# Altium integrated library Renesas Microcontroller M16C.IntLib: 423 symbols (part 8 of 30)
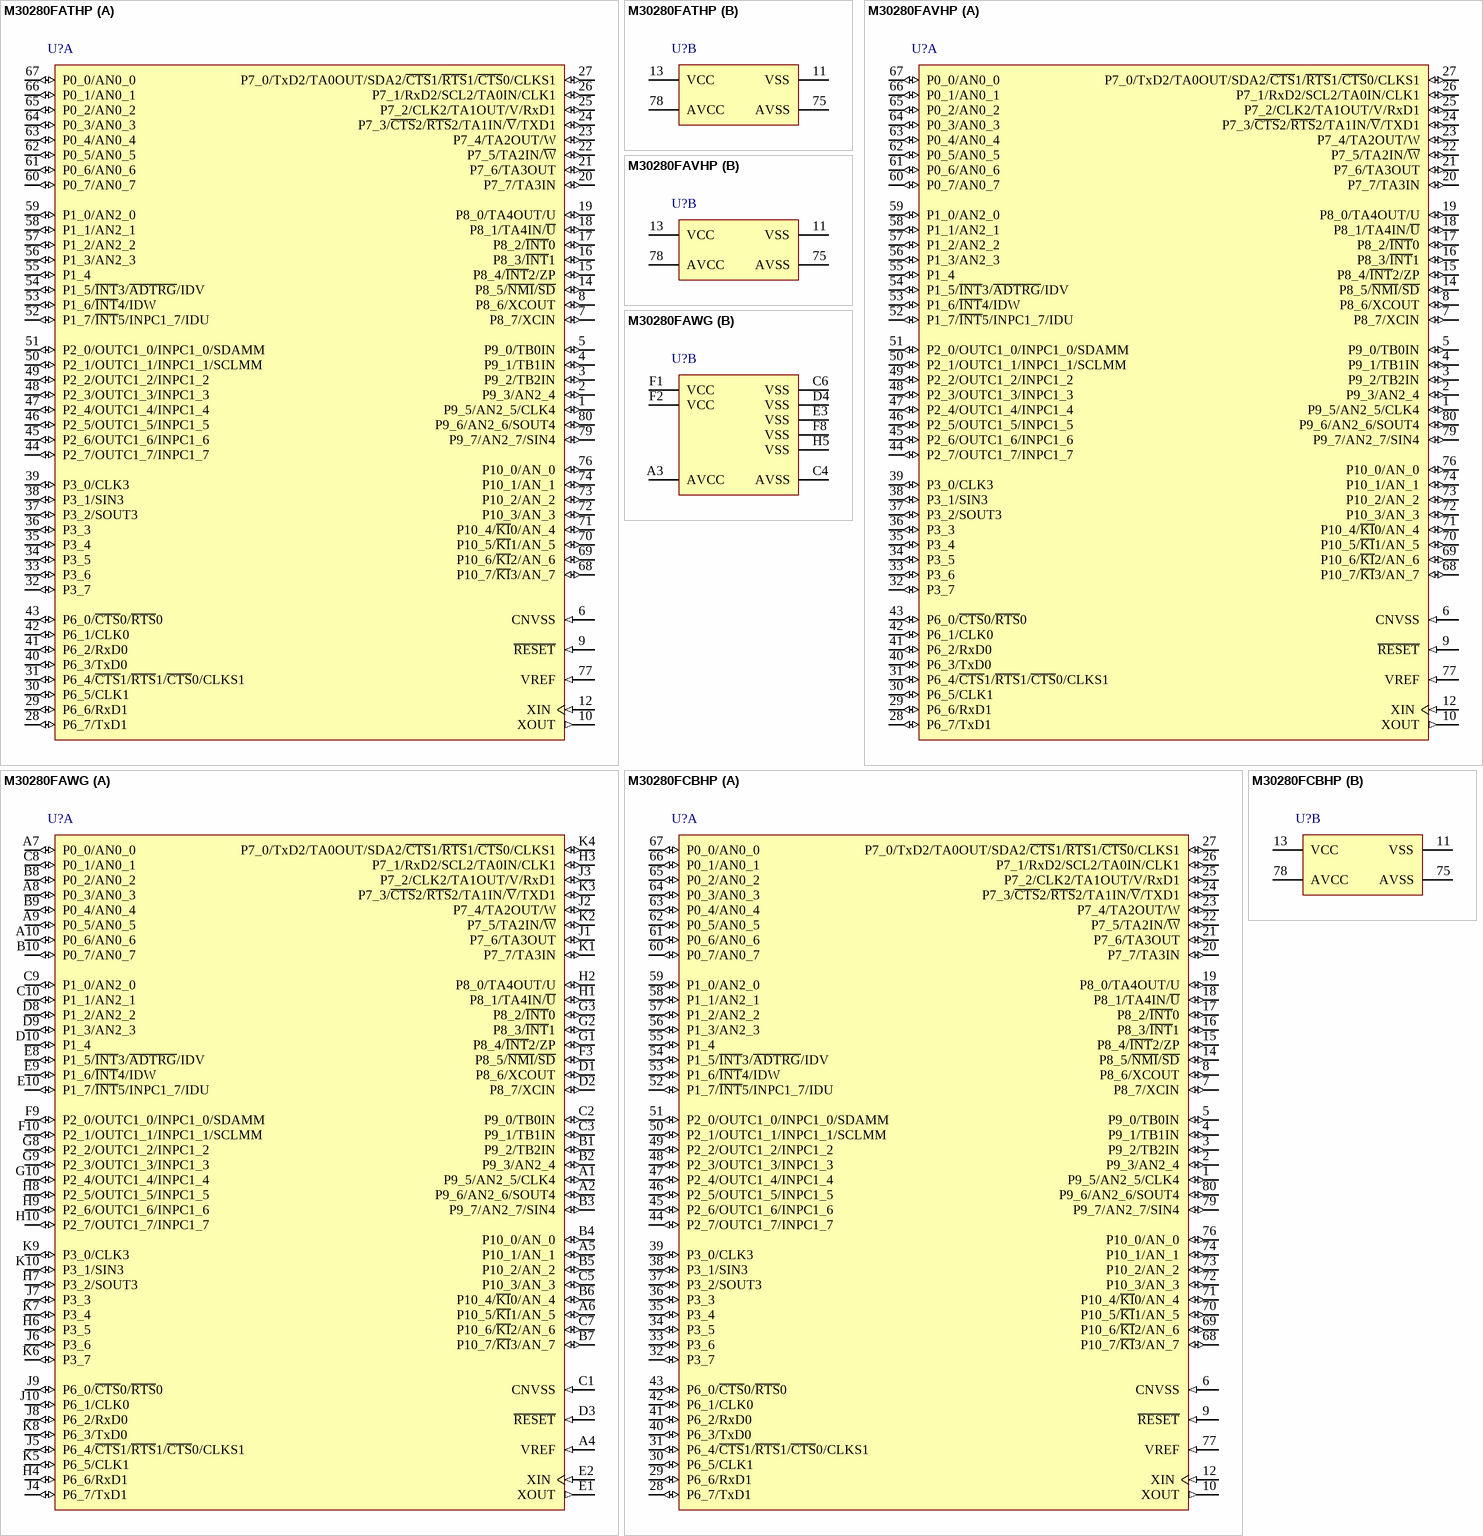
[diagram p193: symbols M30280FATHP to M30280FCBHP]

## M30280FAWG
designator U?
Flash Memory M16C/Tiny Series, 28 Group MCU, 96K + 4K ROM, 8K RAM, 80-pin BGA; Published: 28-Aug-2009; DatasheetVersion: Rev.2.00, Jan-2007; PackageVersion: Sep-2005; PackageReference: PTLG0085JB-A; Publisher: Altium Limited; PackageDescription: 85-Ball Plastic Thin Fine-Pitch BGA, 7 x 7 mm Body, 0.65 mm Pitch; Code_JEITA: P-TFLGA85-7x7-0.65; ComponentLink1Description: Manufacturer Link; ComponentLink1URL: http://sg.renesas.com/fmwk.jsp?cnt=m16c_family_landing.jsp&fp=/products/mpumcu/m16c_family/; ComponentLink2Description: Datasheet; ComponentLink2URL: http://documentation.renesas.com/eng/products/mpumcu/rej09b0047_16c28hm.pdf; ComponentLink3Description: Packaging Specification; ComponentLink3URL: http://sg.renesas.com/media/products/common_info/package/pdf/ic/code/ptlg0085jb_a.pdf
footprint PTLG0085JB-A (BGA, 85-Leads, Body 7x7mm, Pitch 0.65mm)
part A pins: A1 P9_5/AN2_5/CLK4 (io), A2 P9_6/AN2_6/SOUT4 (io), A4 VREF (in), A5 P10_1/AN_1 (io), A6 P10_5/~{KI}1/AN_5 (io), A7 P0_0/AN0_0 (io), A8 P0_3/AN0_3 (io), A9 P0_5/AN0_5 (io), A10 P0_6/AN0_6 (io), B1 P9_2/TB2IN (io), B2 P9_3/AN2_4 (io), B3 P9_7/AN2_7/SIN4 (io), B4 P10_0/AN_0 (io), B5 P10_2/AN_2 (io), B6 P10_4/~{KI}0/AN_4 (io), B7 P10_7/~{KI}3/AN_7 (io), B8 P0_2/AN0_2 (io), B9 P0_4/AN0_4 (io), B10 P0_7/AN0_7 (io), C1 CNVSS (in), C2 P9_0/TB0IN (io), C3 P9_1/TB1IN (io), C5 P10_3/AN_3 (io), C7 P10_6/~{KI}2/AN_6 (io), C8 P0_1/AN0_1 (io), C9 P1_0/AN2_0 (io), C10 P1_1/AN2_1 (io), D1 P8_6/XCOUT (io), D2 P8_7/XCIN (io), D3 ~{RESET} (in), D8 P1_2/AN2_2 (io), D9 P1_3/AN2_3 (io), D10 P1_4 (io), E1 XOUT (out), E2 XIN (in), E8 P1_5/~{INT}3/~{ADTRG}/IDV (io), E9 P1_6/~{INT}4/IDW (io), E10 P1_7/~{INT}5/INPC1_7/IDU (io), F3 P8_5/~{NMI}/~{SD} (io), F9 P2_0/OUTC1_0/INPC1_0/SDAMM (io), F10 P2_1/OUTC1_1/INPC1_1/SCLMM (io), G1 P8_4/~{INT}2/ZP (io), G2 P8_3/~{INT}1 (io), G3 P8_2/~{INT}0 (io), G8 P2_2/OUTC1_2/INPC1_2 (io), G9 P2_3/OUTC1_3/INPC1_3 (io), G10 P2_4/OUTC1_4/INPC1_4 (io), H1 P8_1/TA4IN/~{U} (io), H2 P8_0/TA4OUT/U (io), H3 P7_1/RxD2/SCL2/TA0IN/CLK1 (io), H4 P6_6/RxD1 (io), H6 P3_5 (io), H7 P3_2/SOUT3 (io), H8 P2_5/OUTC1_5/INPC1_5 (io), H9 P2_6/OUTC1_6/INPC1_6 (io), H10 P2_7/OUTC1_7/INPC1_7 (io), J1 P7_6/TA3OUT (io), J2 P7_4/TA2OUT/W (io), J3 P7_2/CLK2/TA1OUT/V/RxD1 (io), J4 P6_7/TxD1 (io), J5 P6_4/~{CTS}1/~{RTS}1/~{CTS}0/CLKS1 (io), J6 P3_6 (io), J7 P3_3 (io), J8 P6_2/RxD0 (io), J9 P6_0/~{CTS}0/~{RTS}0 (io), J10 P6_1/CLK0 (io), K1 P7_7/TA3IN (io), K2 P7_5/TA2IN/~{W} (io), K3 P7_3/~{CTS}2/~{RTS}2/TA1IN/~{V}/TXD1 (io), K4 P7_0/TxD2/TA0OUT/SDA2/~{CTS}1/~{RTS}1/~{CTS}0/CLKS1 (io), K5 P6_5/CLK1 (io), K6 P3_7 (io), K7 P3_4 (io), K8 P6_3/TxD0 (io), K9 P3_0/CLK3 (io), K10 P3_1/SIN3 (io)
part B pins: A3 AVCC (power), C4 AVSS (power), C6 VSS (power), D4 VSS (power), E3 VSS (power), F1 VCC (power), F2 VCC (power), F8 VSS (power), H5 VSS (power)

## M30280FCBHP
designator U?
Flash Memory M16C/Tiny Series, 28B Group MCU, 128K + 4K ROM, 12K RAM, 80-pin LQFP; Published: 28-Aug-2009; DatasheetVersion: Rev.2.00, Jan-2007; PackageVersion: Sep-2005; PackageReference: PLQP0080KB-A; Publisher: Altium Limited; PackageDescription: 80-Pin Plastic Low Profile QFP, 12 x 12 x 1.4 mm Body, 0.5 mm Pitch; Code_JEITA: P-LQFP80-12x12-0.50; Code_IPC: SQFP50P1400X1400-80; ComponentLink1Description: Manufacturer Link; ComponentLink1URL: http://sg.renesas.com/fmwk.jsp?cnt=m16c_family_landing.jsp&fp=/products/mpumcu/m16c_family/; ComponentLink2Description: Datasheet; ComponentLink2URL: http://documentation.renesas.com/eng/products/mpumcu/rej09b0047_16c28hm.pdf; ComponentLink3Description: Packaging Specification; ComponentLink3URL: http://sg.renesas.com/media/products/common_info/package/pdf/ic/code/plqp0080kb_a.pdf
footprint PLQP0080KB-A_N (Shrink QFP, 80-Leads, Body 12x12mm, Pitch 0.5mm, IPC Medium Density)
footprint PLQP0080KB-A_L (Shrink QFP, 80-Leads, Body 12x12mm, Pitch 0.5mm, IPC High Density)
footprint PLQP0080KB-A_M (Shrink QFP, 80-Leads, Body 12x12mm, Pitch 0.5mm, IPC Low Density)
part A pins: 1 P9_5/AN2_5/CLK4 (io), 2 P9_3/AN2_4 (io), 3 P9_2/TB2IN (io), 4 P9_1/TB1IN (io), 5 P9_0/TB0IN (io), 6 CNVSS (in), 7 P8_7/XCIN (io), 8 P8_6/XCOUT (io), 9 ~{RESET} (in), 10 XOUT (out), 12 XIN (in), 14 P8_5/~{NMI}/~{SD} (io), 15 P8_4/~{INT}2/ZP (io), 16 P8_3/~{INT}1 (io), 17 P8_2/~{INT}0 (io), 18 P8_1/TA4IN/~{U} (io), 19 P8_0/TA4OUT/U (io), 20 P7_7/TA3IN (io), 21 P7_6/TA3OUT (io), 22 P7_5/TA2IN/~{W} (io), 23 P7_4/TA2OUT/W (io), 24 P7_3/~{CTS}2/~{RTS}2/TA1IN/~{V}/TXD1 (io), 25 P7_2/CLK2/TA1OUT/V/RxD1 (io), 26 P7_1/RxD2/SCL2/TA0IN/CLK1 (io), 27 P7_0/TxD2/TA0OUT/SDA2/~{CTS}1/~{RTS}1/~{CTS}0/CLKS1 (io), 28 P6_7/TxD1 (io), 29 P6_6/RxD1 (io), 30 P6_5/CLK1 (io), 31 P6_4/~{CTS}1/~{RTS}1/~{CTS}0/CLKS1 (io), 32 P3_7 (io), 33 P3_6 (io), 34 P3_5 (io), 35 P3_4 (io), 36 P3_3 (io), 37 P3_2/SOUT3 (io), 38 P3_1/SIN3 (io), 39 P3_0/CLK3 (io), 40 P6_3/TxD0 (io), 41 P6_2/RxD0 (io), 42 P6_1/CLK0 (io), 43 P6_0/~{CTS}0/~{RTS}0 (io), 44 P2_7/OUTC1_7/INPC1_7 (io), 45 P2_6/OUTC1_6/INPC1_6 (io), 46 P2_5/OUTC1_5/INPC1_5 (io), 47 P2_4/OUTC1_4/INPC1_4 (io), 48 P2_3/OUTC1_3/INPC1_3 (io), 49 P2_2/OUTC1_2/INPC1_2 (io), 50 P2_1/OUTC1_1/INPC1_1/SCLMM (io), 51 P2_0/OUTC1_0/INPC1_0/SDAMM (io), 52 P1_7/~{INT}5/INPC1_7/IDU (io), 53 P1_6/~{INT}4/IDW (io), 54 P1_5/~{INT}3/~{ADTRG}/IDV (io), 55 P1_4 (io), 56 P1_3/AN2_3 (io), 57 P1_2/AN2_2 (io), 58 P1_1/AN2_1 (io), 59 P1_0/AN2_0 (io), 60 P0_7/AN0_7 (io), 61 P0_6/AN0_6 (io), 62 P0_5/AN0_5 (io), 63 P0_4/AN0_4 (io), 64 P0_3/AN0_3 (io), 65 P0_2/AN0_2 (io), 66 P0_1/AN0_1 (io), 67 P0_0/AN0_0 (io), 68 P10_7/~{KI}3/AN_7 (io), 69 P10_6/~{KI}2/AN_6 (io), 70 P10_5/~{KI}1/AN_5 (io), 71 P10_4/~{KI}0/AN_4 (io), 72 P10_3/AN_3 (io), 73 P10_2/AN_2 (io), 74 P10_1/AN_1 (io), 76 P10_0/AN_0 (io), 77 VREF (in), 79 P9_7/AN2_7/SIN4 (io), 80 P9_6/AN2_6/SOUT4 (io)
part B pins: 11 VSS (power), 13 VCC (power), 75 AVSS (power), 78 AVCC (power)

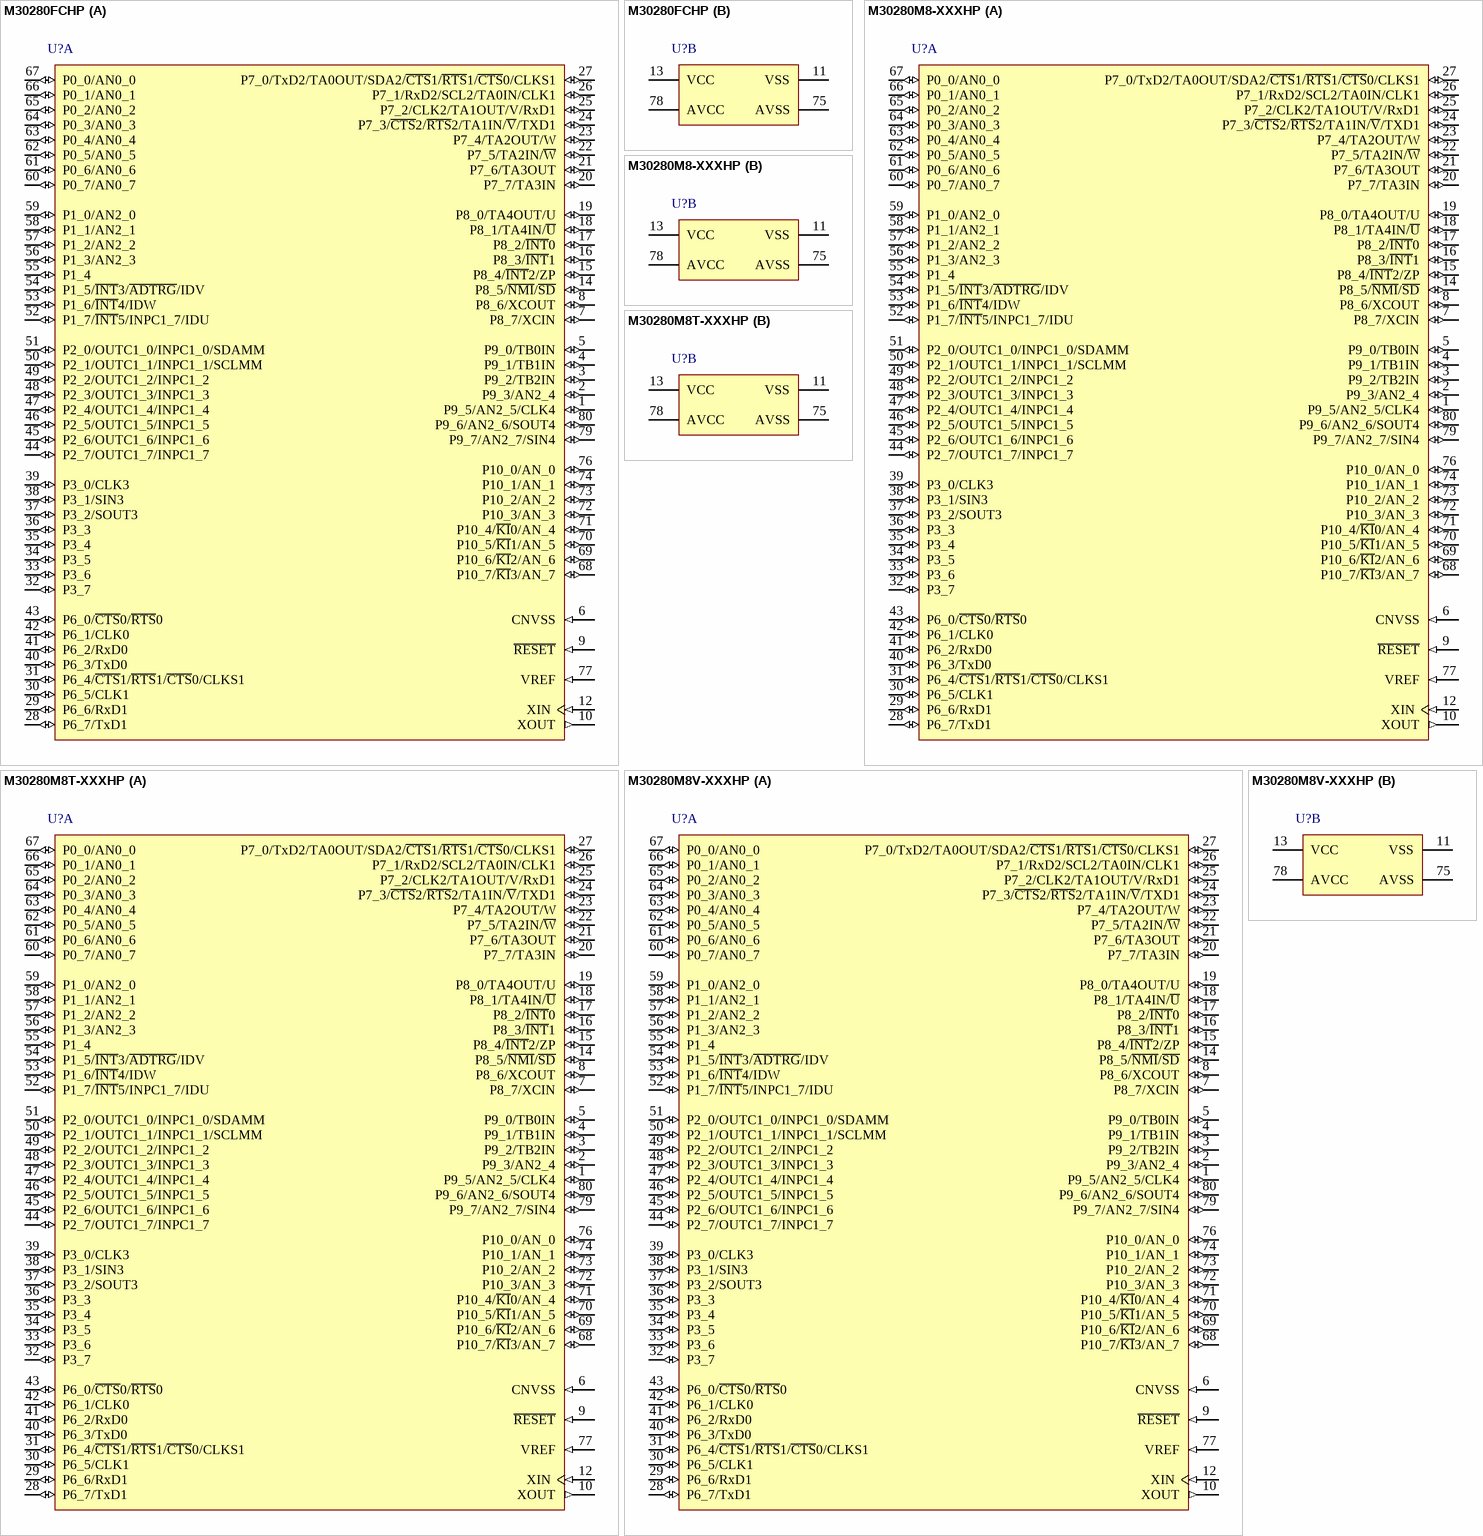
[diagram p44: symbols M30280FCHP to M30280M8V-XXXHP]

## M30280FCHP
designator U?
Flash Memory M16C/Tiny Series, 28 Group MCU, 128K + 12K ROM, 8K RAM, 80-pin LQFP; Published: 28-Aug-2009; DatasheetVersion: Rev.2.00, Jan-2007; PackageVersion: Sep-2005; PackageReference: PLQP0080KB-A; Publisher: Altium Limited; PackageDescription: 80-Pin Plastic Low Profile QFP, 12 x 12 x 1.4 mm Body, 0.5 mm Pitch; Code_JEITA: P-LQFP80-12x12-0.50; Code_IPC: SQFP50P1400X1400-80; ComponentLink1Description: Manufacturer Link; ComponentLink1URL: http://sg.renesas.com/fmwk.jsp?cnt=m16c_family_landing.jsp&fp=/products/mpumcu/m16c_family/; ComponentLink2Description: Datasheet; ComponentLink2URL: http://documentation.renesas.com/eng/products/mpumcu/rej09b0047_16c28hm.pdf; ComponentLink3Description: Packaging Specification; ComponentLink3URL: http://sg.renesas.com/media/products/common_info/package/pdf/ic/code/plqp0080kb_a.pdf
footprint PLQP0080KB-A_N (Shrink QFP, 80-Leads, Body 12x12mm, Pitch 0.5mm, IPC Medium Density)
footprint PLQP0080KB-A_L (Shrink QFP, 80-Leads, Body 12x12mm, Pitch 0.5mm, IPC High Density)
footprint PLQP0080KB-A_M (Shrink QFP, 80-Leads, Body 12x12mm, Pitch 0.5mm, IPC Low Density)
part A pins: 1 P9_5/AN2_5/CLK4 (io), 2 P9_3/AN2_4 (io), 3 P9_2/TB2IN (io), 4 P9_1/TB1IN (io), 5 P9_0/TB0IN (io), 6 CNVSS (in), 7 P8_7/XCIN (io), 8 P8_6/XCOUT (io), 9 ~{RESET} (in), 10 XOUT (out), 12 XIN (in), 14 P8_5/~{NMI}/~{SD} (io), 15 P8_4/~{INT}2/ZP (io), 16 P8_3/~{INT}1 (io), 17 P8_2/~{INT}0 (io), 18 P8_1/TA4IN/~{U} (io), 19 P8_0/TA4OUT/U (io), 20 P7_7/TA3IN (io), 21 P7_6/TA3OUT (io), 22 P7_5/TA2IN/~{W} (io), 23 P7_4/TA2OUT/W (io), 24 P7_3/~{CTS}2/~{RTS}2/TA1IN/~{V}/TXD1 (io), 25 P7_2/CLK2/TA1OUT/V/RxD1 (io), 26 P7_1/RxD2/SCL2/TA0IN/CLK1 (io), 27 P7_0/TxD2/TA0OUT/SDA2/~{CTS}1/~{RTS}1/~{CTS}0/CLKS1 (io), 28 P6_7/TxD1 (io), 29 P6_6/RxD1 (io), 30 P6_5/CLK1 (io), 31 P6_4/~{CTS}1/~{RTS}1/~{CTS}0/CLKS1 (io), 32 P3_7 (io), 33 P3_6 (io), 34 P3_5 (io), 35 P3_4 (io), 36 P3_3 (io), 37 P3_2/SOUT3 (io), 38 P3_1/SIN3 (io), 39 P3_0/CLK3 (io), 40 P6_3/TxD0 (io), 41 P6_2/RxD0 (io), 42 P6_1/CLK0 (io), 43 P6_0/~{CTS}0/~{RTS}0 (io), 44 P2_7/OUTC1_7/INPC1_7 (io), 45 P2_6/OUTC1_6/INPC1_6 (io), 46 P2_5/OUTC1_5/INPC1_5 (io), 47 P2_4/OUTC1_4/INPC1_4 (io), 48 P2_3/OUTC1_3/INPC1_3 (io), 49 P2_2/OUTC1_2/INPC1_2 (io), 50 P2_1/OUTC1_1/INPC1_1/SCLMM (io), 51 P2_0/OUTC1_0/INPC1_0/SDAMM (io), 52 P1_7/~{INT}5/INPC1_7/IDU (io), 53 P1_6/~{INT}4/IDW (io), 54 P1_5/~{INT}3/~{ADTRG}/IDV (io), 55 P1_4 (io), 56 P1_3/AN2_3 (io), 57 P1_2/AN2_2 (io), 58 P1_1/AN2_1 (io), 59 P1_0/AN2_0 (io), 60 P0_7/AN0_7 (io), 61 P0_6/AN0_6 (io), 62 P0_5/AN0_5 (io), 63 P0_4/AN0_4 (io), 64 P0_3/AN0_3 (io), 65 P0_2/AN0_2 (io), 66 P0_1/AN0_1 (io), 67 P0_0/AN0_0 (io), 68 P10_7/~{KI}3/AN_7 (io), 69 P10_6/~{KI}2/AN_6 (io), 70 P10_5/~{KI}1/AN_5 (io), 71 P10_4/~{KI}0/AN_4 (io), 72 P10_3/AN_3 (io), 73 P10_2/AN_2 (io), 74 P10_1/AN_1 (io), 76 P10_0/AN_0 (io), 77 VREF (in), 79 P9_7/AN2_7/SIN4 (io), 80 P9_6/AN2_6/SOUT4 (io)
part B pins: 11 VSS (power), 13 VCC (power), 75 AVSS (power), 78 AVCC (power)

## M30280M8-XXXHP
designator U?
Mask ROM M16C/Tiny Series, 28 Group MCU, 64K ROM, 4K RAM, 80-pin LQFP; Published: 28-Aug-2009; DatasheetVersion: Rev.2.00, Jan-2007; PackageVersion: Sep-2005; PackageReference: PLQP0080KB-A; Publisher: Altium Limited; PackageDescription: 80-Pin Plastic Low Profile QFP, 12 x 12 x 1.4 mm Body, 0.5 mm Pitch; Code_JEITA: P-LQFP80-12x12-0.50; Code_IPC: SQFP50P1400X1400-80; ComponentLink1Description: Manufacturer Link; ComponentLink1URL: http://sg.renesas.com/fmwk.jsp?cnt=m16c_family_landing.jsp&fp=/products/mpumcu/m16c_family/; ComponentLink2Description: Datasheet; ComponentLink2URL: http://documentation.renesas.com/eng/products/mpumcu/rej09b0047_16c28hm.pdf; ComponentLink3Description: Packaging Specification; ComponentLink3URL: http://sg.renesas.com/media/products/common_info/package/pdf/ic/code/plqp0080kb_a.pdf
footprint PLQP0080KB-A_N (Shrink QFP, 80-Leads, Body 12x12mm, Pitch 0.5mm, IPC Medium Density)
footprint PLQP0080KB-A_L (Shrink QFP, 80-Leads, Body 12x12mm, Pitch 0.5mm, IPC High Density)
footprint PLQP0080KB-A_M (Shrink QFP, 80-Leads, Body 12x12mm, Pitch 0.5mm, IPC Low Density)
part A pins: 1 P9_5/AN2_5/CLK4 (io), 2 P9_3/AN2_4 (io), 3 P9_2/TB2IN (io), 4 P9_1/TB1IN (io), 5 P9_0/TB0IN (io), 6 CNVSS (in), 7 P8_7/XCIN (io), 8 P8_6/XCOUT (io), 9 ~{RESET} (in), 10 XOUT (out), 12 XIN (in), 14 P8_5/~{NMI}/~{SD} (io), 15 P8_4/~{INT}2/ZP (io), 16 P8_3/~{INT}1 (io), 17 P8_2/~{INT}0 (io), 18 P8_1/TA4IN/~{U} (io), 19 P8_0/TA4OUT/U (io), 20 P7_7/TA3IN (io), 21 P7_6/TA3OUT (io), 22 P7_5/TA2IN/~{W} (io), 23 P7_4/TA2OUT/W (io), 24 P7_3/~{CTS}2/~{RTS}2/TA1IN/~{V}/TXD1 (io), 25 P7_2/CLK2/TA1OUT/V/RxD1 (io), 26 P7_1/RxD2/SCL2/TA0IN/CLK1 (io), 27 P7_0/TxD2/TA0OUT/SDA2/~{CTS}1/~{RTS}1/~{CTS}0/CLKS1 (io), 28 P6_7/TxD1 (io), 29 P6_6/RxD1 (io), 30 P6_5/CLK1 (io), 31 P6_4/~{CTS}1/~{RTS}1/~{CTS}0/CLKS1 (io), 32 P3_7 (io), 33 P3_6 (io), 34 P3_5 (io), 35 P3_4 (io), 36 P3_3 (io), 37 P3_2/SOUT3 (io), 38 P3_1/SIN3 (io), 39 P3_0/CLK3 (io), 40 P6_3/TxD0 (io), 41 P6_2/RxD0 (io), 42 P6_1/CLK0 (io), 43 P6_0/~{CTS}0/~{RTS}0 (io), 44 P2_7/OUTC1_7/INPC1_7 (io), 45 P2_6/OUTC1_6/INPC1_6 (io), 46 P2_5/OUTC1_5/INPC1_5 (io), 47 P2_4/OUTC1_4/INPC1_4 (io), 48 P2_3/OUTC1_3/INPC1_3 (io), 49 P2_2/OUTC1_2/INPC1_2 (io), 50 P2_1/OUTC1_1/INPC1_1/SCLMM (io), 51 P2_0/OUTC1_0/INPC1_0/SDAMM (io), 52 P1_7/~{INT}5/INPC1_7/IDU (io), 53 P1_6/~{INT}4/IDW (io), 54 P1_5/~{INT}3/~{ADTRG}/IDV (io), 55 P1_4 (io), 56 P1_3/AN2_3 (io), 57 P1_2/AN2_2 (io), 58 P1_1/AN2_1 (io), 59 P1_0/AN2_0 (io), 60 P0_7/AN0_7 (io), 61 P0_6/AN0_6 (io), 62 P0_5/AN0_5 (io), 63 P0_4/AN0_4 (io), 64 P0_3/AN0_3 (io), 65 P0_2/AN0_2 (io), 66 P0_1/AN0_1 (io), 67 P0_0/AN0_0 (io), 68 P10_7/~{KI}3/AN_7 (io), 69 P10_6/~{KI}2/AN_6 (io), 70 P10_5/~{KI}1/AN_5 (io), 71 P10_4/~{KI}0/AN_4 (io), 72 P10_3/AN_3 (io), 73 P10_2/AN_2 (io), 74 P10_1/AN_1 (io), 76 P10_0/AN_0 (io), 77 VREF (in), 79 P9_7/AN2_7/SIN4 (io), 80 P9_6/AN2_6/SOUT4 (io)
part B pins: 11 VSS (power), 13 VCC (power), 75 AVSS (power), 78 AVCC (power)

## M30280M8T-XXXHP
designator U?
Mask ROM M16C/Tiny Series, 28 Group MCU, 64K ROM, 4K RAM, 80-pin LQFP, Version T; Published: 28-Aug-2009; DatasheetVersion: Rev.2.00, Jan-2007; PackageVersion: Sep-2005; PackageReference: PLQP0080KB-A; Publisher: Altium Limited; PackageDescription: 80-Pin Plastic Low Profile QFP, 12 x 12 x 1.4 mm Body, 0.5 mm Pitch; Code_JEITA: P-LQFP80-12x12-0.50; Code_IPC: SQFP50P1400X1400-80; ComponentLink1Description: Manufacturer Link; ComponentLink1URL: http://sg.renesas.com/fmwk.jsp?cnt=m16c_family_landing.jsp&fp=/products/mpumcu/m16c_family/; ComponentLink2Description: Datasheet; ComponentLink2URL: http://documentation.renesas.com/eng/products/mpumcu/rej09b0047_16c28hm.pdf; ComponentLink3Description: Packaging Specification; ComponentLink3URL: http://sg.renesas.com/media/products/common_info/package/pdf/ic/code/plqp0080kb_a.pdf
footprint PLQP0080KB-A_N (Shrink QFP, 80-Leads, Body 12x12mm, Pitch 0.5mm, IPC Medium Density)
footprint PLQP0080KB-A_L (Shrink QFP, 80-Leads, Body 12x12mm, Pitch 0.5mm, IPC High Density)
footprint PLQP0080KB-A_M (Shrink QFP, 80-Leads, Body 12x12mm, Pitch 0.5mm, IPC Low Density)
part A pins: 1 P9_5/AN2_5/CLK4 (io), 2 P9_3/AN2_4 (io), 3 P9_2/TB2IN (io), 4 P9_1/TB1IN (io), 5 P9_0/TB0IN (io), 6 CNVSS (in), 7 P8_7/XCIN (io), 8 P8_6/XCOUT (io), 9 ~{RESET} (in), 10 XOUT (out), 12 XIN (in), 14 P8_5/~{NMI}/~{SD} (io), 15 P8_4/~{INT}2/ZP (io), 16 P8_3/~{INT}1 (io), 17 P8_2/~{INT}0 (io), 18 P8_1/TA4IN/~{U} (io), 19 P8_0/TA4OUT/U (io), 20 P7_7/TA3IN (io), 21 P7_6/TA3OUT (io), 22 P7_5/TA2IN/~{W} (io), 23 P7_4/TA2OUT/W (io), 24 P7_3/~{CTS}2/~{RTS}2/TA1IN/~{V}/TXD1 (io), 25 P7_2/CLK2/TA1OUT/V/RxD1 (io), 26 P7_1/RxD2/SCL2/TA0IN/CLK1 (io), 27 P7_0/TxD2/TA0OUT/SDA2/~{CTS}1/~{RTS}1/~{CTS}0/CLKS1 (io), 28 P6_7/TxD1 (io), 29 P6_6/RxD1 (io), 30 P6_5/CLK1 (io), 31 P6_4/~{CTS}1/~{RTS}1/~{CTS}0/CLKS1 (io), 32 P3_7 (io), 33 P3_6 (io), 34 P3_5 (io), 35 P3_4 (io), 36 P3_3 (io), 37 P3_2/SOUT3 (io), 38 P3_1/SIN3 (io), 39 P3_0/CLK3 (io), 40 P6_3/TxD0 (io), 41 P6_2/RxD0 (io), 42 P6_1/CLK0 (io), 43 P6_0/~{CTS}0/~{RTS}0 (io), 44 P2_7/OUTC1_7/INPC1_7 (io), 45 P2_6/OUTC1_6/INPC1_6 (io), 46 P2_5/OUTC1_5/INPC1_5 (io), 47 P2_4/OUTC1_4/INPC1_4 (io), 48 P2_3/OUTC1_3/INPC1_3 (io), 49 P2_2/OUTC1_2/INPC1_2 (io), 50 P2_1/OUTC1_1/INPC1_1/SCLMM (io), 51 P2_0/OUTC1_0/INPC1_0/SDAMM (io), 52 P1_7/~{INT}5/INPC1_7/IDU (io), 53 P1_6/~{INT}4/IDW (io), 54 P1_5/~{INT}3/~{ADTRG}/IDV (io), 55 P1_4 (io), 56 P1_3/AN2_3 (io), 57 P1_2/AN2_2 (io), 58 P1_1/AN2_1 (io), 59 P1_0/AN2_0 (io), 60 P0_7/AN0_7 (io), 61 P0_6/AN0_6 (io), 62 P0_5/AN0_5 (io), 63 P0_4/AN0_4 (io), 64 P0_3/AN0_3 (io), 65 P0_2/AN0_2 (io), 66 P0_1/AN0_1 (io), 67 P0_0/AN0_0 (io), 68 P10_7/~{KI}3/AN_7 (io), 69 P10_6/~{KI}2/AN_6 (io), 70 P10_5/~{KI}1/AN_5 (io), 71 P10_4/~{KI}0/AN_4 (io), 72 P10_3/AN_3 (io), 73 P10_2/AN_2 (io), 74 P10_1/AN_1 (io), 76 P10_0/AN_0 (io), 77 VREF (in), 79 P9_7/AN2_7/SIN4 (io), 80 P9_6/AN2_6/SOUT4 (io)
part B pins: 11 VSS (power), 13 VCC (power), 75 AVSS (power), 78 AVCC (power)

## M30280M8V-XXXHP
designator U?
Mask ROM M16C/Tiny Series, 28 Group MCU, 64K ROM, 4K RAM, 80-pin LQFP, Version V; Published: 28-Aug-2009; DatasheetVersion: Rev.2.00, Jan-2007; PackageVersion: Sep-2005; PackageReference: PLQP0080KB-A; Publisher: Altium Limited; PackageDescription: 80-Pin Plastic Low Profile QFP, 12 x 12 x 1.4 mm Body, 0.5 mm Pitch; Code_JEITA: P-LQFP80-12x12-0.50; Code_IPC: SQFP50P1400X1400-80; ComponentLink1Description: Manufacturer Link; ComponentLink1URL: http://sg.renesas.com/fmwk.jsp?cnt=m16c_family_landing.jsp&fp=/products/mpumcu/m16c_family/; ComponentLink2Description: Datasheet; ComponentLink2URL: http://documentation.renesas.com/eng/products/mpumcu/rej09b0047_16c28hm.pdf; ComponentLink3Description: Packaging Specification; ComponentLink3URL: http://sg.renesas.com/media/products/common_info/package/pdf/ic/code/plqp0080kb_a.pdf
footprint PLQP0080KB-A_N (Shrink QFP, 80-Leads, Body 12x12mm, Pitch 0.5mm, IPC Medium Density)
footprint PLQP0080KB-A_L (Shrink QFP, 80-Leads, Body 12x12mm, Pitch 0.5mm, IPC High Density)
footprint PLQP0080KB-A_M (Shrink QFP, 80-Leads, Body 12x12mm, Pitch 0.5mm, IPC Low Density)
part A pins: 1 P9_5/AN2_5/CLK4 (io), 2 P9_3/AN2_4 (io), 3 P9_2/TB2IN (io), 4 P9_1/TB1IN (io), 5 P9_0/TB0IN (io), 6 CNVSS (in), 7 P8_7/XCIN (io), 8 P8_6/XCOUT (io), 9 ~{RESET} (in), 10 XOUT (out), 12 XIN (in), 14 P8_5/~{NMI}/~{SD} (io), 15 P8_4/~{INT}2/ZP (io), 16 P8_3/~{INT}1 (io), 17 P8_2/~{INT}0 (io), 18 P8_1/TA4IN/~{U} (io), 19 P8_0/TA4OUT/U (io), 20 P7_7/TA3IN (io), 21 P7_6/TA3OUT (io), 22 P7_5/TA2IN/~{W} (io), 23 P7_4/TA2OUT/W (io), 24 P7_3/~{CTS}2/~{RTS}2/TA1IN/~{V}/TXD1 (io), 25 P7_2/CLK2/TA1OUT/V/RxD1 (io), 26 P7_1/RxD2/SCL2/TA0IN/CLK1 (io), 27 P7_0/TxD2/TA0OUT/SDA2/~{CTS}1/~{RTS}1/~{CTS}0/CLKS1 (io), 28 P6_7/TxD1 (io), 29 P6_6/RxD1 (io), 30 P6_5/CLK1 (io), 31 P6_4/~{CTS}1/~{RTS}1/~{CTS}0/CLKS1 (io), 32 P3_7 (io), 33 P3_6 (io), 34 P3_5 (io), 35 P3_4 (io), 36 P3_3 (io), 37 P3_2/SOUT3 (io), 38 P3_1/SIN3 (io), 39 P3_0/CLK3 (io), 40 P6_3/TxD0 (io), 41 P6_2/RxD0 (io), 42 P6_1/CLK0 (io), 43 P6_0/~{CTS}0/~{RTS}0 (io), 44 P2_7/OUTC1_7/INPC1_7 (io), 45 P2_6/OUTC1_6/INPC1_6 (io), 46 P2_5/OUTC1_5/INPC1_5 (io), 47 P2_4/OUTC1_4/INPC1_4 (io), 48 P2_3/OUTC1_3/INPC1_3 (io), 49 P2_2/OUTC1_2/INPC1_2 (io), 50 P2_1/OUTC1_1/INPC1_1/SCLMM (io), 51 P2_0/OUTC1_0/INPC1_0/SDAMM (io), 52 P1_7/~{INT}5/INPC1_7/IDU (io), 53 P1_6/~{INT}4/IDW (io), 54 P1_5/~{INT}3/~{ADTRG}/IDV (io), 55 P1_4 (io), 56 P1_3/AN2_3 (io), 57 P1_2/AN2_2 (io), 58 P1_1/AN2_1 (io), 59 P1_0/AN2_0 (io), 60 P0_7/AN0_7 (io), 61 P0_6/AN0_6 (io), 62 P0_5/AN0_5 (io), 63 P0_4/AN0_4 (io), 64 P0_3/AN0_3 (io), 65 P0_2/AN0_2 (io), 66 P0_1/AN0_1 (io), 67 P0_0/AN0_0 (io), 68 P10_7/~{KI}3/AN_7 (io), 69 P10_6/~{KI}2/AN_6 (io), 70 P10_5/~{KI}1/AN_5 (io), 71 P10_4/~{KI}0/AN_4 (io), 72 P10_3/AN_3 (io), 73 P10_2/AN_2 (io), 74 P10_1/AN_1 (io), 76 P10_0/AN_0 (io), 77 VREF (in), 79 P9_7/AN2_7/SIN4 (io), 80 P9_6/AN2_6/SOUT4 (io)
part B pins: 11 VSS (power), 13 VCC (power), 75 AVSS (power), 78 AVCC (power)

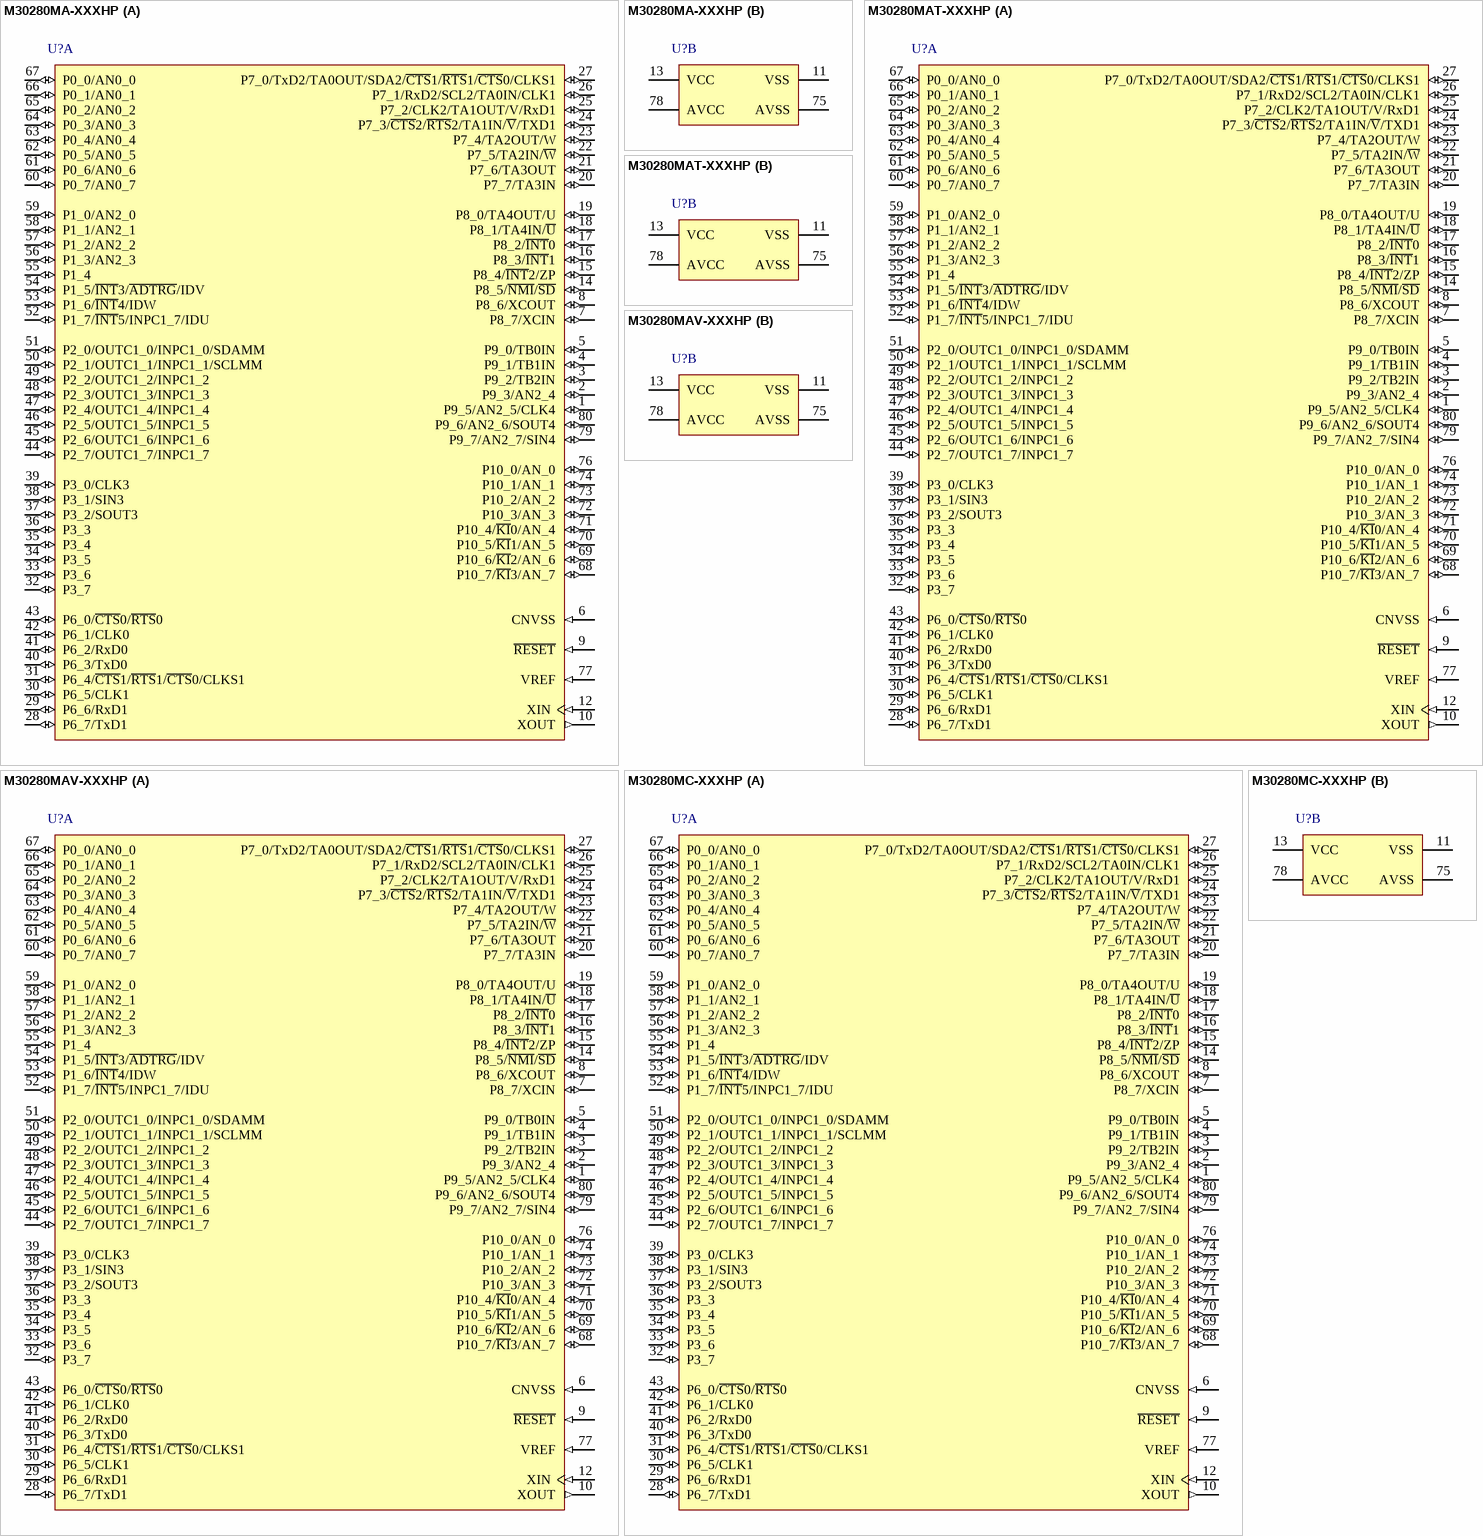
[diagram p45: symbols M30280MA-XXXHP to M30280MC-XXXHP]

## M30280MA-XXXHP
designator U?
Mask ROM M16C/Tiny Series, 28 Group MCU, 96K ROM, 8K RAM, 80-pin LQFP; Published: 28-Aug-2009; DatasheetVersion: Rev.2.00, Jan-2007; PackageVersion: Sep-2005; PackageReference: PLQP0080KB-A; Publisher: Altium Limited; PackageDescription: 80-Pin Plastic Low Profile QFP, 12 x 12 x 1.4 mm Body, 0.5 mm Pitch; Code_JEITA: P-LQFP80-12x12-0.50; Code_IPC: SQFP50P1400X1400-80; ComponentLink1Description: Manufacturer Link; ComponentLink1URL: http://sg.renesas.com/fmwk.jsp?cnt=m16c_family_landing.jsp&fp=/products/mpumcu/m16c_family/; ComponentLink2Description: Datasheet; ComponentLink2URL: http://documentation.renesas.com/eng/products/mpumcu/rej09b0047_16c28hm.pdf; ComponentLink3Description: Packaging Specification; ComponentLink3URL: http://sg.renesas.com/media/products/common_info/package/pdf/ic/code/plqp0080kb_a.pdf
footprint PLQP0080KB-A_N (Shrink QFP, 80-Leads, Body 12x12mm, Pitch 0.5mm, IPC Medium Density)
footprint PLQP0080KB-A_L (Shrink QFP, 80-Leads, Body 12x12mm, Pitch 0.5mm, IPC High Density)
footprint PLQP0080KB-A_M (Shrink QFP, 80-Leads, Body 12x12mm, Pitch 0.5mm, IPC Low Density)
part A pins: 1 P9_5/AN2_5/CLK4 (io), 2 P9_3/AN2_4 (io), 3 P9_2/TB2IN (io), 4 P9_1/TB1IN (io), 5 P9_0/TB0IN (io), 6 CNVSS (in), 7 P8_7/XCIN (io), 8 P8_6/XCOUT (io), 9 ~{RESET} (in), 10 XOUT (out), 12 XIN (in), 14 P8_5/~{NMI}/~{SD} (io), 15 P8_4/~{INT}2/ZP (io), 16 P8_3/~{INT}1 (io), 17 P8_2/~{INT}0 (io), 18 P8_1/TA4IN/~{U} (io), 19 P8_0/TA4OUT/U (io), 20 P7_7/TA3IN (io), 21 P7_6/TA3OUT (io), 22 P7_5/TA2IN/~{W} (io), 23 P7_4/TA2OUT/W (io), 24 P7_3/~{CTS}2/~{RTS}2/TA1IN/~{V}/TXD1 (io), 25 P7_2/CLK2/TA1OUT/V/RxD1 (io), 26 P7_1/RxD2/SCL2/TA0IN/CLK1 (io), 27 P7_0/TxD2/TA0OUT/SDA2/~{CTS}1/~{RTS}1/~{CTS}0/CLKS1 (io), 28 P6_7/TxD1 (io), 29 P6_6/RxD1 (io), 30 P6_5/CLK1 (io), 31 P6_4/~{CTS}1/~{RTS}1/~{CTS}0/CLKS1 (io), 32 P3_7 (io), 33 P3_6 (io), 34 P3_5 (io), 35 P3_4 (io), 36 P3_3 (io), 37 P3_2/SOUT3 (io), 38 P3_1/SIN3 (io), 39 P3_0/CLK3 (io), 40 P6_3/TxD0 (io), 41 P6_2/RxD0 (io), 42 P6_1/CLK0 (io), 43 P6_0/~{CTS}0/~{RTS}0 (io), 44 P2_7/OUTC1_7/INPC1_7 (io), 45 P2_6/OUTC1_6/INPC1_6 (io), 46 P2_5/OUTC1_5/INPC1_5 (io), 47 P2_4/OUTC1_4/INPC1_4 (io), 48 P2_3/OUTC1_3/INPC1_3 (io), 49 P2_2/OUTC1_2/INPC1_2 (io), 50 P2_1/OUTC1_1/INPC1_1/SCLMM (io), 51 P2_0/OUTC1_0/INPC1_0/SDAMM (io), 52 P1_7/~{INT}5/INPC1_7/IDU (io), 53 P1_6/~{INT}4/IDW (io), 54 P1_5/~{INT}3/~{ADTRG}/IDV (io), 55 P1_4 (io), 56 P1_3/AN2_3 (io), 57 P1_2/AN2_2 (io), 58 P1_1/AN2_1 (io), 59 P1_0/AN2_0 (io), 60 P0_7/AN0_7 (io), 61 P0_6/AN0_6 (io), 62 P0_5/AN0_5 (io), 63 P0_4/AN0_4 (io), 64 P0_3/AN0_3 (io), 65 P0_2/AN0_2 (io), 66 P0_1/AN0_1 (io), 67 P0_0/AN0_0 (io), 68 P10_7/~{KI}3/AN_7 (io), 69 P10_6/~{KI}2/AN_6 (io), 70 P10_5/~{KI}1/AN_5 (io), 71 P10_4/~{KI}0/AN_4 (io), 72 P10_3/AN_3 (io), 73 P10_2/AN_2 (io), 74 P10_1/AN_1 (io), 76 P10_0/AN_0 (io), 77 VREF (in), 79 P9_7/AN2_7/SIN4 (io), 80 P9_6/AN2_6/SOUT4 (io)
part B pins: 11 VSS (power), 13 VCC (power), 75 AVSS (power), 78 AVCC (power)

## M30280MAT-XXXHP
designator U?
Mask ROM M16C/Tiny Series, 28 Group MCU, 96K ROM, 8K RAM, 80-pin LQFP, Version T; Published: 28-Aug-2009; DatasheetVersion: Rev.2.00, Jan-2007; PackageVersion: Sep-2005; PackageReference: PLQP0080KB-A; Publisher: Altium Limited; PackageDescription: 80-Pin Plastic Low Profile QFP, 12 x 12 x 1.4 mm Body, 0.5 mm Pitch; Code_JEITA: P-LQFP80-12x12-0.50; Code_IPC: SQFP50P1400X1400-80; ComponentLink1Description: Manufacturer Link; ComponentLink1URL: http://sg.renesas.com/fmwk.jsp?cnt=m16c_family_landing.jsp&fp=/products/mpumcu/m16c_family/; ComponentLink2Description: Datasheet; ComponentLink2URL: http://documentation.renesas.com/eng/products/mpumcu/rej09b0047_16c28hm.pdf; ComponentLink3Description: Packaging Specification; ComponentLink3URL: http://sg.renesas.com/media/products/common_info/package/pdf/ic/code/plqp0080kb_a.pdf
footprint PLQP0080KB-A_N (Shrink QFP, 80-Leads, Body 12x12mm, Pitch 0.5mm, IPC Medium Density)
footprint PLQP0080KB-A_L (Shrink QFP, 80-Leads, Body 12x12mm, Pitch 0.5mm, IPC High Density)
footprint PLQP0080KB-A_M (Shrink QFP, 80-Leads, Body 12x12mm, Pitch 0.5mm, IPC Low Density)
part A pins: 1 P9_5/AN2_5/CLK4 (io), 2 P9_3/AN2_4 (io), 3 P9_2/TB2IN (io), 4 P9_1/TB1IN (io), 5 P9_0/TB0IN (io), 6 CNVSS (in), 7 P8_7/XCIN (io), 8 P8_6/XCOUT (io), 9 ~{RESET} (in), 10 XOUT (out), 12 XIN (in), 14 P8_5/~{NMI}/~{SD} (io), 15 P8_4/~{INT}2/ZP (io), 16 P8_3/~{INT}1 (io), 17 P8_2/~{INT}0 (io), 18 P8_1/TA4IN/~{U} (io), 19 P8_0/TA4OUT/U (io), 20 P7_7/TA3IN (io), 21 P7_6/TA3OUT (io), 22 P7_5/TA2IN/~{W} (io), 23 P7_4/TA2OUT/W (io), 24 P7_3/~{CTS}2/~{RTS}2/TA1IN/~{V}/TXD1 (io), 25 P7_2/CLK2/TA1OUT/V/RxD1 (io), 26 P7_1/RxD2/SCL2/TA0IN/CLK1 (io), 27 P7_0/TxD2/TA0OUT/SDA2/~{CTS}1/~{RTS}1/~{CTS}0/CLKS1 (io), 28 P6_7/TxD1 (io), 29 P6_6/RxD1 (io), 30 P6_5/CLK1 (io), 31 P6_4/~{CTS}1/~{RTS}1/~{CTS}0/CLKS1 (io), 32 P3_7 (io), 33 P3_6 (io), 34 P3_5 (io), 35 P3_4 (io), 36 P3_3 (io), 37 P3_2/SOUT3 (io), 38 P3_1/SIN3 (io), 39 P3_0/CLK3 (io), 40 P6_3/TxD0 (io), 41 P6_2/RxD0 (io), 42 P6_1/CLK0 (io), 43 P6_0/~{CTS}0/~{RTS}0 (io), 44 P2_7/OUTC1_7/INPC1_7 (io), 45 P2_6/OUTC1_6/INPC1_6 (io), 46 P2_5/OUTC1_5/INPC1_5 (io), 47 P2_4/OUTC1_4/INPC1_4 (io), 48 P2_3/OUTC1_3/INPC1_3 (io), 49 P2_2/OUTC1_2/INPC1_2 (io), 50 P2_1/OUTC1_1/INPC1_1/SCLMM (io), 51 P2_0/OUTC1_0/INPC1_0/SDAMM (io), 52 P1_7/~{INT}5/INPC1_7/IDU (io), 53 P1_6/~{INT}4/IDW (io), 54 P1_5/~{INT}3/~{ADTRG}/IDV (io), 55 P1_4 (io), 56 P1_3/AN2_3 (io), 57 P1_2/AN2_2 (io), 58 P1_1/AN2_1 (io), 59 P1_0/AN2_0 (io), 60 P0_7/AN0_7 (io), 61 P0_6/AN0_6 (io), 62 P0_5/AN0_5 (io), 63 P0_4/AN0_4 (io), 64 P0_3/AN0_3 (io), 65 P0_2/AN0_2 (io), 66 P0_1/AN0_1 (io), 67 P0_0/AN0_0 (io), 68 P10_7/~{KI}3/AN_7 (io), 69 P10_6/~{KI}2/AN_6 (io), 70 P10_5/~{KI}1/AN_5 (io), 71 P10_4/~{KI}0/AN_4 (io), 72 P10_3/AN_3 (io), 73 P10_2/AN_2 (io), 74 P10_1/AN_1 (io), 76 P10_0/AN_0 (io), 77 VREF (in), 79 P9_7/AN2_7/SIN4 (io), 80 P9_6/AN2_6/SOUT4 (io)
part B pins: 11 VSS (power), 13 VCC (power), 75 AVSS (power), 78 AVCC (power)

## M30280MAV-XXXHP
designator U?
Mask ROM M16C/Tiny Series, 28 Group MCU, 96K ROM, 8K RAM, 80-pin LQFP, Version V; Published: 28-Aug-2009; DatasheetVersion: Rev.2.00, Jan-2007; PackageVersion: Sep-2005; PackageReference: PLQP0080KB-A; Publisher: Altium Limited; PackageDescription: 80-Pin Plastic Low Profile QFP, 12 x 12 x 1.4 mm Body, 0.5 mm Pitch; Code_JEITA: P-LQFP80-12x12-0.50; Code_IPC: SQFP50P1400X1400-80; ComponentLink1Description: Manufacturer Link; ComponentLink1URL: http://sg.renesas.com/fmwk.jsp?cnt=m16c_family_landing.jsp&fp=/products/mpumcu/m16c_family/; ComponentLink2Description: Datasheet; ComponentLink2URL: http://documentation.renesas.com/eng/products/mpumcu/rej09b0047_16c28hm.pdf; ComponentLink3Description: Packaging Specification; ComponentLink3URL: http://sg.renesas.com/media/products/common_info/package/pdf/ic/code/plqp0080kb_a.pdf
footprint PLQP0080KB-A_N (Shrink QFP, 80-Leads, Body 12x12mm, Pitch 0.5mm, IPC Medium Density)
footprint PLQP0080KB-A_L (Shrink QFP, 80-Leads, Body 12x12mm, Pitch 0.5mm, IPC High Density)
footprint PLQP0080KB-A_M (Shrink QFP, 80-Leads, Body 12x12mm, Pitch 0.5mm, IPC Low Density)
part A pins: 1 P9_5/AN2_5/CLK4 (io), 2 P9_3/AN2_4 (io), 3 P9_2/TB2IN (io), 4 P9_1/TB1IN (io), 5 P9_0/TB0IN (io), 6 CNVSS (in), 7 P8_7/XCIN (io), 8 P8_6/XCOUT (io), 9 ~{RESET} (in), 10 XOUT (out), 12 XIN (in), 14 P8_5/~{NMI}/~{SD} (io), 15 P8_4/~{INT}2/ZP (io), 16 P8_3/~{INT}1 (io), 17 P8_2/~{INT}0 (io), 18 P8_1/TA4IN/~{U} (io), 19 P8_0/TA4OUT/U (io), 20 P7_7/TA3IN (io), 21 P7_6/TA3OUT (io), 22 P7_5/TA2IN/~{W} (io), 23 P7_4/TA2OUT/W (io), 24 P7_3/~{CTS}2/~{RTS}2/TA1IN/~{V}/TXD1 (io), 25 P7_2/CLK2/TA1OUT/V/RxD1 (io), 26 P7_1/RxD2/SCL2/TA0IN/CLK1 (io), 27 P7_0/TxD2/TA0OUT/SDA2/~{CTS}1/~{RTS}1/~{CTS}0/CLKS1 (io), 28 P6_7/TxD1 (io), 29 P6_6/RxD1 (io), 30 P6_5/CLK1 (io), 31 P6_4/~{CTS}1/~{RTS}1/~{CTS}0/CLKS1 (io), 32 P3_7 (io), 33 P3_6 (io), 34 P3_5 (io), 35 P3_4 (io), 36 P3_3 (io), 37 P3_2/SOUT3 (io), 38 P3_1/SIN3 (io), 39 P3_0/CLK3 (io), 40 P6_3/TxD0 (io), 41 P6_2/RxD0 (io), 42 P6_1/CLK0 (io), 43 P6_0/~{CTS}0/~{RTS}0 (io), 44 P2_7/OUTC1_7/INPC1_7 (io), 45 P2_6/OUTC1_6/INPC1_6 (io), 46 P2_5/OUTC1_5/INPC1_5 (io), 47 P2_4/OUTC1_4/INPC1_4 (io), 48 P2_3/OUTC1_3/INPC1_3 (io), 49 P2_2/OUTC1_2/INPC1_2 (io), 50 P2_1/OUTC1_1/INPC1_1/SCLMM (io), 51 P2_0/OUTC1_0/INPC1_0/SDAMM (io), 52 P1_7/~{INT}5/INPC1_7/IDU (io), 53 P1_6/~{INT}4/IDW (io), 54 P1_5/~{INT}3/~{ADTRG}/IDV (io), 55 P1_4 (io), 56 P1_3/AN2_3 (io), 57 P1_2/AN2_2 (io), 58 P1_1/AN2_1 (io), 59 P1_0/AN2_0 (io), 60 P0_7/AN0_7 (io), 61 P0_6/AN0_6 (io), 62 P0_5/AN0_5 (io), 63 P0_4/AN0_4 (io), 64 P0_3/AN0_3 (io), 65 P0_2/AN0_2 (io), 66 P0_1/AN0_1 (io), 67 P0_0/AN0_0 (io), 68 P10_7/~{KI}3/AN_7 (io), 69 P10_6/~{KI}2/AN_6 (io), 70 P10_5/~{KI}1/AN_5 (io), 71 P10_4/~{KI}0/AN_4 (io), 72 P10_3/AN_3 (io), 73 P10_2/AN_2 (io), 74 P10_1/AN_1 (io), 76 P10_0/AN_0 (io), 77 VREF (in), 79 P9_7/AN2_7/SIN4 (io), 80 P9_6/AN2_6/SOUT4 (io)
part B pins: 11 VSS (power), 13 VCC (power), 75 AVSS (power), 78 AVCC (power)

## M30280MC-XXXHP
designator U?
Mask ROM M16C/Tiny Series, 28 Group MCU, 128K ROM, 12K RAM, 80-pin LQFP; Published: 28-Aug-2009; DatasheetVersion: Rev.2.00, Jan-2007; PackageVersion: Sep-2005; PackageReference: PLQP0080KB-A; Publisher: Altium Limited; PackageDescription: 80-Pin Plastic Low Profile QFP, 12 x 12 x 1.4 mm Body, 0.5 mm Pitch; Code_JEITA: P-LQFP80-12x12-0.50; Code_IPC: SQFP50P1400X1400-80; ComponentLink1Description: Manufacturer Link; ComponentLink1URL: http://sg.renesas.com/fmwk.jsp?cnt=m16c_family_landing.jsp&fp=/products/mpumcu/m16c_family/; ComponentLink2Description: Datasheet; ComponentLink2URL: http://documentation.renesas.com/eng/products/mpumcu/rej09b0047_16c28hm.pdf; ComponentLink3Description: Packaging Specification; ComponentLink3URL: http://sg.renesas.com/media/products/common_info/package/pdf/ic/code/plqp0080kb_a.pdf
footprint PLQP0080KB-A_N (Shrink QFP, 80-Leads, Body 12x12mm, Pitch 0.5mm, IPC Medium Density)
footprint PLQP0080KB-A_L (Shrink QFP, 80-Leads, Body 12x12mm, Pitch 0.5mm, IPC High Density)
footprint PLQP0080KB-A_M (Shrink QFP, 80-Leads, Body 12x12mm, Pitch 0.5mm, IPC Low Density)
part A pins: 1 P9_5/AN2_5/CLK4 (io), 2 P9_3/AN2_4 (io), 3 P9_2/TB2IN (io), 4 P9_1/TB1IN (io), 5 P9_0/TB0IN (io), 6 CNVSS (in), 7 P8_7/XCIN (io), 8 P8_6/XCOUT (io), 9 ~{RESET} (in), 10 XOUT (out), 12 XIN (in), 14 P8_5/~{NMI}/~{SD} (io), 15 P8_4/~{INT}2/ZP (io), 16 P8_3/~{INT}1 (io), 17 P8_2/~{INT}0 (io), 18 P8_1/TA4IN/~{U} (io), 19 P8_0/TA4OUT/U (io), 20 P7_7/TA3IN (io), 21 P7_6/TA3OUT (io), 22 P7_5/TA2IN/~{W} (io), 23 P7_4/TA2OUT/W (io), 24 P7_3/~{CTS}2/~{RTS}2/TA1IN/~{V}/TXD1 (io), 25 P7_2/CLK2/TA1OUT/V/RxD1 (io), 26 P7_1/RxD2/SCL2/TA0IN/CLK1 (io), 27 P7_0/TxD2/TA0OUT/SDA2/~{CTS}1/~{RTS}1/~{CTS}0/CLKS1 (io), 28 P6_7/TxD1 (io), 29 P6_6/RxD1 (io), 30 P6_5/CLK1 (io), 31 P6_4/~{CTS}1/~{RTS}1/~{CTS}0/CLKS1 (io), 32 P3_7 (io), 33 P3_6 (io), 34 P3_5 (io), 35 P3_4 (io), 36 P3_3 (io), 37 P3_2/SOUT3 (io), 38 P3_1/SIN3 (io), 39 P3_0/CLK3 (io), 40 P6_3/TxD0 (io), 41 P6_2/RxD0 (io), 42 P6_1/CLK0 (io), 43 P6_0/~{CTS}0/~{RTS}0 (io), 44 P2_7/OUTC1_7/INPC1_7 (io), 45 P2_6/OUTC1_6/INPC1_6 (io), 46 P2_5/OUTC1_5/INPC1_5 (io), 47 P2_4/OUTC1_4/INPC1_4 (io), 48 P2_3/OUTC1_3/INPC1_3 (io), 49 P2_2/OUTC1_2/INPC1_2 (io), 50 P2_1/OUTC1_1/INPC1_1/SCLMM (io), 51 P2_0/OUTC1_0/INPC1_0/SDAMM (io), 52 P1_7/~{INT}5/INPC1_7/IDU (io), 53 P1_6/~{INT}4/IDW (io), 54 P1_5/~{INT}3/~{ADTRG}/IDV (io), 55 P1_4 (io), 56 P1_3/AN2_3 (io), 57 P1_2/AN2_2 (io), 58 P1_1/AN2_1 (io), 59 P1_0/AN2_0 (io), 60 P0_7/AN0_7 (io), 61 P0_6/AN0_6 (io), 62 P0_5/AN0_5 (io), 63 P0_4/AN0_4 (io), 64 P0_3/AN0_3 (io), 65 P0_2/AN0_2 (io), 66 P0_1/AN0_1 (io), 67 P0_0/AN0_0 (io), 68 P10_7/~{KI}3/AN_7 (io), 69 P10_6/~{KI}2/AN_6 (io), 70 P10_5/~{KI}1/AN_5 (io), 71 P10_4/~{KI}0/AN_4 (io), 72 P10_3/AN_3 (io), 73 P10_2/AN_2 (io), 74 P10_1/AN_1 (io), 76 P10_0/AN_0 (io), 77 VREF (in), 79 P9_7/AN2_7/SIN4 (io), 80 P9_6/AN2_6/SOUT4 (io)
part B pins: 11 VSS (power), 13 VCC (power), 75 AVSS (power), 78 AVCC (power)

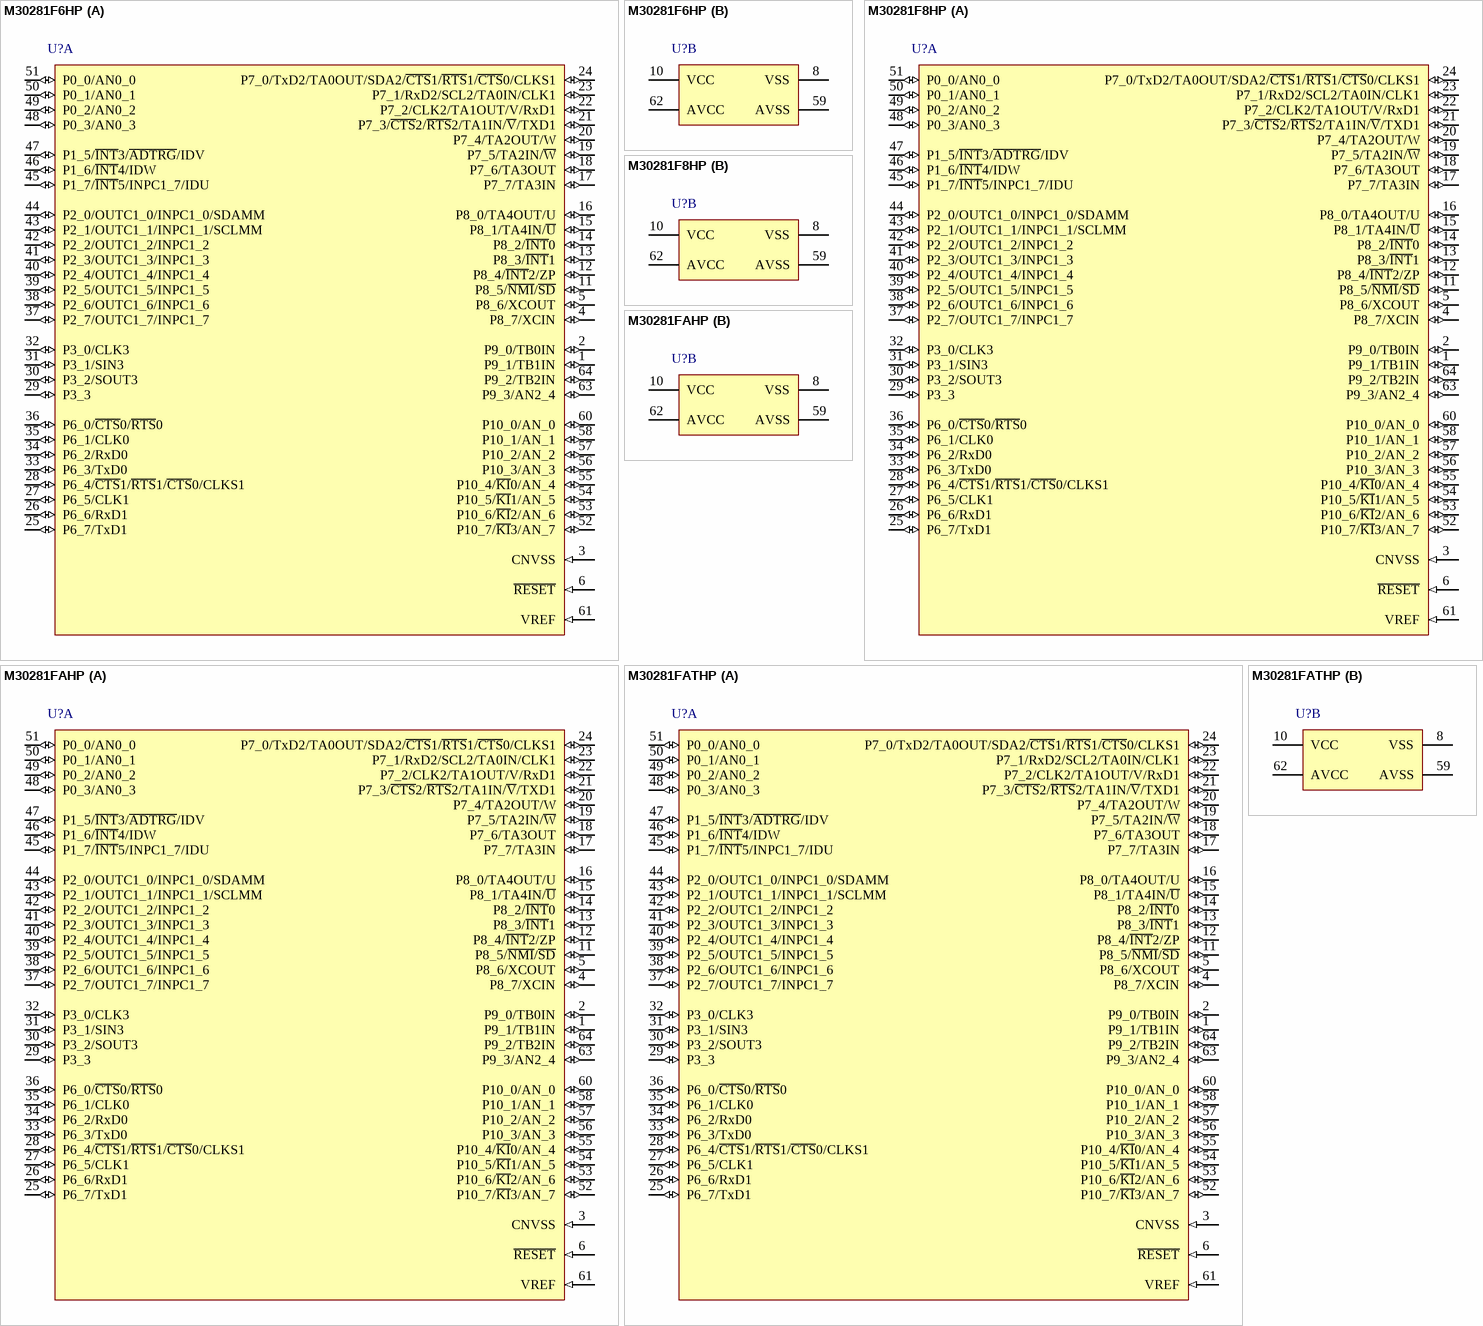
[diagram p46: symbols M30281F6HP to M30281FATHP]

## M30281F6HP
designator U?
Flash Memory M16C/Tiny Series, 28 Group MCU, 48K + 4K ROM, 4K RAM, 64-pin QFP; Published: 28-Aug-2009; DatasheetVersion: Rev.2.00, Jan-2007; PackageVersion: Sep-2005; PackageReference: PLQP0064KB-A; Publisher: Altium Limited; PackageDescription: 64-Pin Plastic Low Profile QFP, 10 x 10 x 1.4 mm Body, 0.5 mm Pitch; Code_JEITA: P-LQFP64-10x10-0.50; Code_IPC: SQFP50P1200X1200-64; ComponentLink1Description: Manufacturer Link; ComponentLink1URL: http://sg.renesas.com/fmwk.jsp?cnt=m16c_family_landing.jsp&fp=/products/mpumcu/m16c_family/; ComponentLink2Description: Datasheet; ComponentLink2URL: http://documentation.renesas.com/eng/products/mpumcu/rej09b0047_16c28hm.pdf; ComponentLink3Description: Packaging Specification; ComponentLink3URL: http://sg.renesas.com/media/products/common_info/package/pdf/ic/code/plqp0064kb_a.pdf
footprint PLQP0064KB-A_N (Shrink QFP, 64-Leads, Body 10x10mm, Pitch 0.5mm, IPC Medium Density)
footprint PLQP0064KB-A_L (Shrink QFP, 64-Leads, Body 10x10mm, Pitch 0.5mm, IPC High Density)
footprint PLQP0064KB-A_M (Shrink QFP, 64-Leads, Body 10x10mm, Pitch 0.5mm, IPC Low Density)
part A pins: 1 P9_1/TB1IN (io), 2 P9_0/TB0IN (io), 3 CNVSS (in), 4 P8_7/XCIN (io), 5 P8_6/XCOUT (io), 6 ~{RESET} (in), 11 P8_5/~{NMI}/~{SD} (io), 12 P8_4/~{INT}2/ZP (io), 13 P8_3/~{INT}1 (io), 14 P8_2/~{INT}0 (io), 15 P8_1/TA4IN/~{U} (io), 16 P8_0/TA4OUT/U (io), 17 P7_7/TA3IN (io), 18 P7_6/TA3OUT (io), 19 P7_5/TA2IN/~{W} (io), 20 P7_4/TA2OUT/W (io), 21 P7_3/~{CTS}2/~{RTS}2/TA1IN/~{V}/TXD1 (io), 22 P7_2/CLK2/TA1OUT/V/RxD1 (io), 23 P7_1/RxD2/SCL2/TA0IN/CLK1 (io), 24 P7_0/TxD2/TA0OUT/SDA2/~{CTS}1/~{RTS}1/~{CTS}0/CLKS1 (io), 25 P6_7/TxD1 (io), 26 P6_6/RxD1 (io), 27 P6_5/CLK1 (io), 28 P6_4/~{CTS}1/~{RTS}1/~{CTS}0/CLKS1 (io), 29 P3_3 (io), 30 P3_2/SOUT3 (io), 31 P3_1/SIN3 (io), 32 P3_0/CLK3 (io), 33 P6_3/TxD0 (io), 34 P6_2/RxD0 (io), 35 P6_1/CLK0 (io), 36 P6_0/~{CTS}0/~{RTS}0 (io), 37 P2_7/OUTC1_7/INPC1_7 (io), 38 P2_6/OUTC1_6/INPC1_6 (io), 39 P2_5/OUTC1_5/INPC1_5 (io), 40 P2_4/OUTC1_4/INPC1_4 (io), 41 P2_3/OUTC1_3/INPC1_3 (io), 42 P2_2/OUTC1_2/INPC1_2 (io), 43 P2_1/OUTC1_1/INPC1_1/SCLMM (io), 44 P2_0/OUTC1_0/INPC1_0/SDAMM (io), 45 P1_7/~{INT}5/INPC1_7/IDU (io), 46 P1_6/~{INT}4/IDW (io), 47 P1_5/~{INT}3/~{ADTRG}/IDV (io), 48 P0_3/AN0_3 (io), 49 P0_2/AN0_2 (io), 50 P0_1/AN0_1 (io), 51 P0_0/AN0_0 (io), 52 P10_7/~{KI}3/AN_7 (io), 53 P10_6/~{KI}2/AN_6 (io), 54 P10_5/~{KI}1/AN_5 (io), 55 P10_4/~{KI}0/AN_4 (io), 56 P10_3/AN_3 (io), 57 P10_2/AN_2 (io), 58 P10_1/AN_1 (io), 60 P10_0/AN_0 (io), 61 VREF (in), 63 P9_3/AN2_4 (io), 64 P9_2/TB2IN (io)
part B pins: 8 VSS (power), 10 VCC (power), 59 AVSS (power), 62 AVCC (power)

## M30281F8HP
designator U?
Flash Memory M16C/Tiny Series, 28 Group MCU, 64K + 4K ROM, 4K RAM, 64-pin QFP; Published: 28-Aug-2009; DatasheetVersion: Rev.2.00, Jan-2007; PackageVersion: Sep-2005; PackageReference: PLQP0064KB-A; Publisher: Altium Limited; PackageDescription: 64-Pin Plastic Low Profile QFP, 10 x 10 x 1.4 mm Body, 0.5 mm Pitch; Code_JEITA: P-LQFP64-10x10-0.50; Code_IPC: SQFP50P1200X1200-64; ComponentLink1Description: Manufacturer Link; ComponentLink1URL: http://sg.renesas.com/fmwk.jsp?cnt=m16c_family_landing.jsp&fp=/products/mpumcu/m16c_family/; ComponentLink2Description: Datasheet; ComponentLink2URL: http://documentation.renesas.com/eng/products/mpumcu/rej09b0047_16c28hm.pdf; ComponentLink3Description: Packaging Specification; ComponentLink3URL: http://sg.renesas.com/media/products/common_info/package/pdf/ic/code/plqp0064kb_a.pdf
footprint PLQP0064KB-A_N (Shrink QFP, 64-Leads, Body 10x10mm, Pitch 0.5mm, IPC Medium Density)
footprint PLQP0064KB-A_L (Shrink QFP, 64-Leads, Body 10x10mm, Pitch 0.5mm, IPC High Density)
footprint PLQP0064KB-A_M (Shrink QFP, 64-Leads, Body 10x10mm, Pitch 0.5mm, IPC Low Density)
part A pins: 1 P9_1/TB1IN (io), 2 P9_0/TB0IN (io), 3 CNVSS (in), 4 P8_7/XCIN (io), 5 P8_6/XCOUT (io), 6 ~{RESET} (in), 11 P8_5/~{NMI}/~{SD} (io), 12 P8_4/~{INT}2/ZP (io), 13 P8_3/~{INT}1 (io), 14 P8_2/~{INT}0 (io), 15 P8_1/TA4IN/~{U} (io), 16 P8_0/TA4OUT/U (io), 17 P7_7/TA3IN (io), 18 P7_6/TA3OUT (io), 19 P7_5/TA2IN/~{W} (io), 20 P7_4/TA2OUT/W (io), 21 P7_3/~{CTS}2/~{RTS}2/TA1IN/~{V}/TXD1 (io), 22 P7_2/CLK2/TA1OUT/V/RxD1 (io), 23 P7_1/RxD2/SCL2/TA0IN/CLK1 (io), 24 P7_0/TxD2/TA0OUT/SDA2/~{CTS}1/~{RTS}1/~{CTS}0/CLKS1 (io), 25 P6_7/TxD1 (io), 26 P6_6/RxD1 (io), 27 P6_5/CLK1 (io), 28 P6_4/~{CTS}1/~{RTS}1/~{CTS}0/CLKS1 (io), 29 P3_3 (io), 30 P3_2/SOUT3 (io), 31 P3_1/SIN3 (io), 32 P3_0/CLK3 (io), 33 P6_3/TxD0 (io), 34 P6_2/RxD0 (io), 35 P6_1/CLK0 (io), 36 P6_0/~{CTS}0/~{RTS}0 (io), 37 P2_7/OUTC1_7/INPC1_7 (io), 38 P2_6/OUTC1_6/INPC1_6 (io), 39 P2_5/OUTC1_5/INPC1_5 (io), 40 P2_4/OUTC1_4/INPC1_4 (io), 41 P2_3/OUTC1_3/INPC1_3 (io), 42 P2_2/OUTC1_2/INPC1_2 (io), 43 P2_1/OUTC1_1/INPC1_1/SCLMM (io), 44 P2_0/OUTC1_0/INPC1_0/SDAMM (io), 45 P1_7/~{INT}5/INPC1_7/IDU (io), 46 P1_6/~{INT}4/IDW (io), 47 P1_5/~{INT}3/~{ADTRG}/IDV (io), 48 P0_3/AN0_3 (io), 49 P0_2/AN0_2 (io), 50 P0_1/AN0_1 (io), 51 P0_0/AN0_0 (io), 52 P10_7/~{KI}3/AN_7 (io), 53 P10_6/~{KI}2/AN_6 (io), 54 P10_5/~{KI}1/AN_5 (io), 55 P10_4/~{KI}0/AN_4 (io), 56 P10_3/AN_3 (io), 57 P10_2/AN_2 (io), 58 P10_1/AN_1 (io), 60 P10_0/AN_0 (io), 61 VREF (in), 63 P9_3/AN2_4 (io), 64 P9_2/TB2IN (io)
part B pins: 8 VSS (power), 10 VCC (power), 59 AVSS (power), 62 AVCC (power)

## M30281FAHP
designator U?
Flash Memory M16C/Tiny Series, 28 Group MCU, 96K + 4K ROM, 8K RAM, 64-pin QFP; Published: 28-Aug-2009; DatasheetVersion: Rev.2.00, Jan-2007; PackageVersion: Sep-2005; PackageReference: PLQP0064KB-A; Publisher: Altium Limited; PackageDescription: 64-Pin Plastic Low Profile QFP, 10 x 10 x 1.4 mm Body, 0.5 mm Pitch; Code_JEITA: P-LQFP64-10x10-0.50; Code_IPC: SQFP50P1200X1200-64; ComponentLink1Description: Manufacturer Link; ComponentLink1URL: http://sg.renesas.com/fmwk.jsp?cnt=m16c_family_landing.jsp&fp=/products/mpumcu/m16c_family/; ComponentLink2Description: Datasheet; ComponentLink2URL: http://documentation.renesas.com/eng/products/mpumcu/rej09b0047_16c28hm.pdf; ComponentLink3Description: Packaging Specification; ComponentLink3URL: http://sg.renesas.com/media/products/common_info/package/pdf/ic/code/plqp0064kb_a.pdf
footprint PLQP0064KB-A_N (Shrink QFP, 64-Leads, Body 10x10mm, Pitch 0.5mm, IPC Medium Density)
footprint PLQP0064KB-A_L (Shrink QFP, 64-Leads, Body 10x10mm, Pitch 0.5mm, IPC High Density)
footprint PLQP0064KB-A_M (Shrink QFP, 64-Leads, Body 10x10mm, Pitch 0.5mm, IPC Low Density)
part A pins: 1 P9_1/TB1IN (io), 2 P9_0/TB0IN (io), 3 CNVSS (in), 4 P8_7/XCIN (io), 5 P8_6/XCOUT (io), 6 ~{RESET} (in), 11 P8_5/~{NMI}/~{SD} (io), 12 P8_4/~{INT}2/ZP (io), 13 P8_3/~{INT}1 (io), 14 P8_2/~{INT}0 (io), 15 P8_1/TA4IN/~{U} (io), 16 P8_0/TA4OUT/U (io), 17 P7_7/TA3IN (io), 18 P7_6/TA3OUT (io), 19 P7_5/TA2IN/~{W} (io), 20 P7_4/TA2OUT/W (io), 21 P7_3/~{CTS}2/~{RTS}2/TA1IN/~{V}/TXD1 (io), 22 P7_2/CLK2/TA1OUT/V/RxD1 (io), 23 P7_1/RxD2/SCL2/TA0IN/CLK1 (io), 24 P7_0/TxD2/TA0OUT/SDA2/~{CTS}1/~{RTS}1/~{CTS}0/CLKS1 (io), 25 P6_7/TxD1 (io), 26 P6_6/RxD1 (io), 27 P6_5/CLK1 (io), 28 P6_4/~{CTS}1/~{RTS}1/~{CTS}0/CLKS1 (io), 29 P3_3 (io), 30 P3_2/SOUT3 (io), 31 P3_1/SIN3 (io), 32 P3_0/CLK3 (io), 33 P6_3/TxD0 (io), 34 P6_2/RxD0 (io), 35 P6_1/CLK0 (io), 36 P6_0/~{CTS}0/~{RTS}0 (io), 37 P2_7/OUTC1_7/INPC1_7 (io), 38 P2_6/OUTC1_6/INPC1_6 (io), 39 P2_5/OUTC1_5/INPC1_5 (io), 40 P2_4/OUTC1_4/INPC1_4 (io), 41 P2_3/OUTC1_3/INPC1_3 (io), 42 P2_2/OUTC1_2/INPC1_2 (io), 43 P2_1/OUTC1_1/INPC1_1/SCLMM (io), 44 P2_0/OUTC1_0/INPC1_0/SDAMM (io), 45 P1_7/~{INT}5/INPC1_7/IDU (io), 46 P1_6/~{INT}4/IDW (io), 47 P1_5/~{INT}3/~{ADTRG}/IDV (io), 48 P0_3/AN0_3 (io), 49 P0_2/AN0_2 (io), 50 P0_1/AN0_1 (io), 51 P0_0/AN0_0 (io), 52 P10_7/~{KI}3/AN_7 (io), 53 P10_6/~{KI}2/AN_6 (io), 54 P10_5/~{KI}1/AN_5 (io), 55 P10_4/~{KI}0/AN_4 (io), 56 P10_3/AN_3 (io), 57 P10_2/AN_2 (io), 58 P10_1/AN_1 (io), 60 P10_0/AN_0 (io), 61 VREF (in), 63 P9_3/AN2_4 (io), 64 P9_2/TB2IN (io)
part B pins: 8 VSS (power), 10 VCC (power), 59 AVSS (power), 62 AVCC (power)

## M30281FATHP
designator U?
Flash Memory M16C/Tiny Series, 28 Group MCU, 96K + 4K ROM, 8K RAM, 64-pin QFP, Version T; Published: 28-Aug-2009; DatasheetVersion: Rev.2.00, Jan-2007; PackageVersion: Sep-2005; PackageReference: PLQP0064KB-A; Publisher: Altium Limited; PackageDescription: 64-Pin Plastic Low Profile QFP, 10 x 10 x 1.4 mm Body, 0.5 mm Pitch; Code_JEITA: P-LQFP64-10x10-0.50; Code_IPC: SQFP50P1200X1200-64; ComponentLink1Description: Manufacturer Link; ComponentLink1URL: http://sg.renesas.com/fmwk.jsp?cnt=m16c_family_landing.jsp&fp=/products/mpumcu/m16c_family/; ComponentLink2Description: Datasheet; ComponentLink2URL: http://documentation.renesas.com/eng/products/mpumcu/rej09b0047_16c28hm.pdf; ComponentLink3Description: Packaging Specification; ComponentLink3URL: http://sg.renesas.com/media/products/common_info/package/pdf/ic/code/plqp0064kb_a.pdf
footprint PLQP0064KB-A_N (Shrink QFP, 64-Leads, Body 10x10mm, Pitch 0.5mm, IPC Medium Density)
footprint PLQP0064KB-A_L (Shrink QFP, 64-Leads, Body 10x10mm, Pitch 0.5mm, IPC High Density)
footprint PLQP0064KB-A_M (Shrink QFP, 64-Leads, Body 10x10mm, Pitch 0.5mm, IPC Low Density)
part A pins: 1 P9_1/TB1IN (io), 2 P9_0/TB0IN (io), 3 CNVSS (in), 4 P8_7/XCIN (io), 5 P8_6/XCOUT (io), 6 ~{RESET} (in), 11 P8_5/~{NMI}/~{SD} (io), 12 P8_4/~{INT}2/ZP (io), 13 P8_3/~{INT}1 (io), 14 P8_2/~{INT}0 (io), 15 P8_1/TA4IN/~{U} (io), 16 P8_0/TA4OUT/U (io), 17 P7_7/TA3IN (io), 18 P7_6/TA3OUT (io), 19 P7_5/TA2IN/~{W} (io), 20 P7_4/TA2OUT/W (io), 21 P7_3/~{CTS}2/~{RTS}2/TA1IN/~{V}/TXD1 (io), 22 P7_2/CLK2/TA1OUT/V/RxD1 (io), 23 P7_1/RxD2/SCL2/TA0IN/CLK1 (io), 24 P7_0/TxD2/TA0OUT/SDA2/~{CTS}1/~{RTS}1/~{CTS}0/CLKS1 (io), 25 P6_7/TxD1 (io), 26 P6_6/RxD1 (io), 27 P6_5/CLK1 (io), 28 P6_4/~{CTS}1/~{RTS}1/~{CTS}0/CLKS1 (io), 29 P3_3 (io), 30 P3_2/SOUT3 (io), 31 P3_1/SIN3 (io), 32 P3_0/CLK3 (io), 33 P6_3/TxD0 (io), 34 P6_2/RxD0 (io), 35 P6_1/CLK0 (io), 36 P6_0/~{CTS}0/~{RTS}0 (io), 37 P2_7/OUTC1_7/INPC1_7 (io), 38 P2_6/OUTC1_6/INPC1_6 (io), 39 P2_5/OUTC1_5/INPC1_5 (io), 40 P2_4/OUTC1_4/INPC1_4 (io), 41 P2_3/OUTC1_3/INPC1_3 (io), 42 P2_2/OUTC1_2/INPC1_2 (io), 43 P2_1/OUTC1_1/INPC1_1/SCLMM (io), 44 P2_0/OUTC1_0/INPC1_0/SDAMM (io), 45 P1_7/~{INT}5/INPC1_7/IDU (io), 46 P1_6/~{INT}4/IDW (io), 47 P1_5/~{INT}3/~{ADTRG}/IDV (io), 48 P0_3/AN0_3 (io), 49 P0_2/AN0_2 (io), 50 P0_1/AN0_1 (io), 51 P0_0/AN0_0 (io), 52 P10_7/~{KI}3/AN_7 (io), 53 P10_6/~{KI}2/AN_6 (io), 54 P10_5/~{KI}1/AN_5 (io), 55 P10_4/~{KI}0/AN_4 (io), 56 P10_3/AN_3 (io), 57 P10_2/AN_2 (io), 58 P10_1/AN_1 (io), 60 P10_0/AN_0 (io), 61 VREF (in), 63 P9_3/AN2_4 (io), 64 P9_2/TB2IN (io)
part B pins: 8 VSS (power), 10 VCC (power), 59 AVSS (power), 62 AVCC (power)

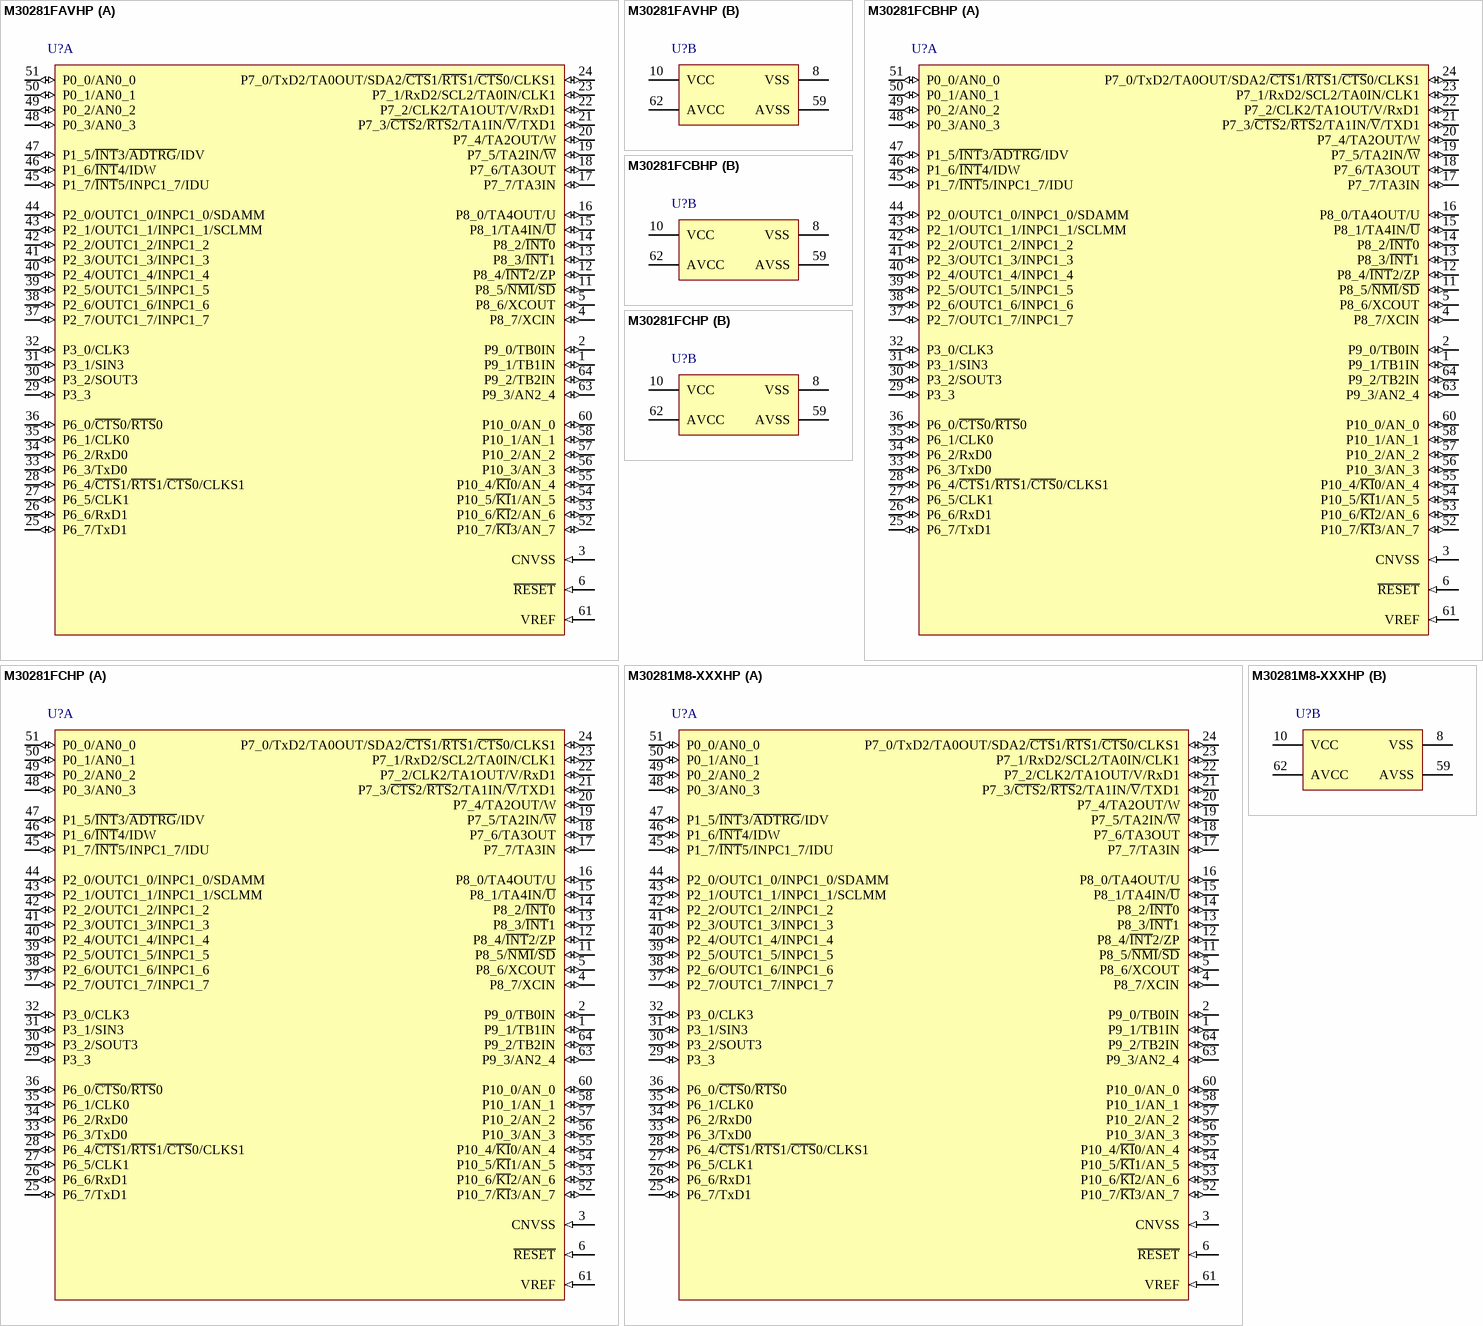
[diagram p47: symbols M30281FAVHP to M30281M8-XXXHP]

## M30281FAVHP
designator U?
Flash Memory M16C/Tiny Series, 28 Group MCU, 96K + 4K ROM, 8K RAM, 64-pin QFP, Version V; Published: 28-Aug-2009; DatasheetVersion: Rev.2.00, Jan-2007; PackageVersion: Sep-2005; PackageReference: PLQP0064KB-A; Publisher: Altium Limited; PackageDescription: 64-Pin Plastic Low Profile QFP, 10 x 10 x 1.4 mm Body, 0.5 mm Pitch; Code_JEITA: P-LQFP64-10x10-0.50; Code_IPC: SQFP50P1200X1200-64; ComponentLink1Description: Manufacturer Link; ComponentLink1URL: http://sg.renesas.com/fmwk.jsp?cnt=m16c_family_landing.jsp&fp=/products/mpumcu/m16c_family/; ComponentLink2Description: Datasheet; ComponentLink2URL: http://documentation.renesas.com/eng/products/mpumcu/rej09b0047_16c28hm.pdf; ComponentLink3Description: Packaging Specification; ComponentLink3URL: http://sg.renesas.com/media/products/common_info/package/pdf/ic/code/plqp0064kb_a.pdf
footprint PLQP0064KB-A_N (Shrink QFP, 64-Leads, Body 10x10mm, Pitch 0.5mm, IPC Medium Density)
footprint PLQP0064KB-A_L (Shrink QFP, 64-Leads, Body 10x10mm, Pitch 0.5mm, IPC High Density)
footprint PLQP0064KB-A_M (Shrink QFP, 64-Leads, Body 10x10mm, Pitch 0.5mm, IPC Low Density)
part A pins: 1 P9_1/TB1IN (io), 2 P9_0/TB0IN (io), 3 CNVSS (in), 4 P8_7/XCIN (io), 5 P8_6/XCOUT (io), 6 ~{RESET} (in), 11 P8_5/~{NMI}/~{SD} (io), 12 P8_4/~{INT}2/ZP (io), 13 P8_3/~{INT}1 (io), 14 P8_2/~{INT}0 (io), 15 P8_1/TA4IN/~{U} (io), 16 P8_0/TA4OUT/U (io), 17 P7_7/TA3IN (io), 18 P7_6/TA3OUT (io), 19 P7_5/TA2IN/~{W} (io), 20 P7_4/TA2OUT/W (io), 21 P7_3/~{CTS}2/~{RTS}2/TA1IN/~{V}/TXD1 (io), 22 P7_2/CLK2/TA1OUT/V/RxD1 (io), 23 P7_1/RxD2/SCL2/TA0IN/CLK1 (io), 24 P7_0/TxD2/TA0OUT/SDA2/~{CTS}1/~{RTS}1/~{CTS}0/CLKS1 (io), 25 P6_7/TxD1 (io), 26 P6_6/RxD1 (io), 27 P6_5/CLK1 (io), 28 P6_4/~{CTS}1/~{RTS}1/~{CTS}0/CLKS1 (io), 29 P3_3 (io), 30 P3_2/SOUT3 (io), 31 P3_1/SIN3 (io), 32 P3_0/CLK3 (io), 33 P6_3/TxD0 (io), 34 P6_2/RxD0 (io), 35 P6_1/CLK0 (io), 36 P6_0/~{CTS}0/~{RTS}0 (io), 37 P2_7/OUTC1_7/INPC1_7 (io), 38 P2_6/OUTC1_6/INPC1_6 (io), 39 P2_5/OUTC1_5/INPC1_5 (io), 40 P2_4/OUTC1_4/INPC1_4 (io), 41 P2_3/OUTC1_3/INPC1_3 (io), 42 P2_2/OUTC1_2/INPC1_2 (io), 43 P2_1/OUTC1_1/INPC1_1/SCLMM (io), 44 P2_0/OUTC1_0/INPC1_0/SDAMM (io), 45 P1_7/~{INT}5/INPC1_7/IDU (io), 46 P1_6/~{INT}4/IDW (io), 47 P1_5/~{INT}3/~{ADTRG}/IDV (io), 48 P0_3/AN0_3 (io), 49 P0_2/AN0_2 (io), 50 P0_1/AN0_1 (io), 51 P0_0/AN0_0 (io), 52 P10_7/~{KI}3/AN_7 (io), 53 P10_6/~{KI}2/AN_6 (io), 54 P10_5/~{KI}1/AN_5 (io), 55 P10_4/~{KI}0/AN_4 (io), 56 P10_3/AN_3 (io), 57 P10_2/AN_2 (io), 58 P10_1/AN_1 (io), 60 P10_0/AN_0 (io), 61 VREF (in), 63 P9_3/AN2_4 (io), 64 P9_2/TB2IN (io)
part B pins: 8 VSS (power), 10 VCC (power), 59 AVSS (power), 62 AVCC (power)

## M30281FCBHP
designator U?
Flash Memory M16C/Tiny Series, 28B Group MCU, 128K + 4K ROM, 12K RAM, 64-pin QFP; Published: 28-Aug-2009; DatasheetVersion: Rev.2.00, Jan-2007; PackageVersion: Sep-2005; PackageReference: PLQP0064KB-A; Publisher: Altium Limited; PackageDescription: 64-Pin Plastic Low Profile QFP, 10 x 10 x 1.4 mm Body, 0.5 mm Pitch; Code_JEITA: P-LQFP64-10x10-0.50; Code_IPC: SQFP50P1200X1200-64; ComponentLink1Description: Manufacturer Link; ComponentLink1URL: http://sg.renesas.com/fmwk.jsp?cnt=m16c_family_landing.jsp&fp=/products/mpumcu/m16c_family/; ComponentLink2Description: Datasheet; ComponentLink2URL: http://documentation.renesas.com/eng/products/mpumcu/rej09b0047_16c28hm.pdf; ComponentLink3Description: Packaging Specification; ComponentLink3URL: http://sg.renesas.com/media/products/common_info/package/pdf/ic/code/plqp0064kb_a.pdf
footprint PLQP0064KB-A_N (Shrink QFP, 64-Leads, Body 10x10mm, Pitch 0.5mm, IPC Medium Density)
footprint PLQP0064KB-A_L (Shrink QFP, 64-Leads, Body 10x10mm, Pitch 0.5mm, IPC High Density)
footprint PLQP0064KB-A_M (Shrink QFP, 64-Leads, Body 10x10mm, Pitch 0.5mm, IPC Low Density)
part A pins: 1 P9_1/TB1IN (io), 2 P9_0/TB0IN (io), 3 CNVSS (in), 4 P8_7/XCIN (io), 5 P8_6/XCOUT (io), 6 ~{RESET} (in), 11 P8_5/~{NMI}/~{SD} (io), 12 P8_4/~{INT}2/ZP (io), 13 P8_3/~{INT}1 (io), 14 P8_2/~{INT}0 (io), 15 P8_1/TA4IN/~{U} (io), 16 P8_0/TA4OUT/U (io), 17 P7_7/TA3IN (io), 18 P7_6/TA3OUT (io), 19 P7_5/TA2IN/~{W} (io), 20 P7_4/TA2OUT/W (io), 21 P7_3/~{CTS}2/~{RTS}2/TA1IN/~{V}/TXD1 (io), 22 P7_2/CLK2/TA1OUT/V/RxD1 (io), 23 P7_1/RxD2/SCL2/TA0IN/CLK1 (io), 24 P7_0/TxD2/TA0OUT/SDA2/~{CTS}1/~{RTS}1/~{CTS}0/CLKS1 (io), 25 P6_7/TxD1 (io), 26 P6_6/RxD1 (io), 27 P6_5/CLK1 (io), 28 P6_4/~{CTS}1/~{RTS}1/~{CTS}0/CLKS1 (io), 29 P3_3 (io), 30 P3_2/SOUT3 (io), 31 P3_1/SIN3 (io), 32 P3_0/CLK3 (io), 33 P6_3/TxD0 (io), 34 P6_2/RxD0 (io), 35 P6_1/CLK0 (io), 36 P6_0/~{CTS}0/~{RTS}0 (io), 37 P2_7/OUTC1_7/INPC1_7 (io), 38 P2_6/OUTC1_6/INPC1_6 (io), 39 P2_5/OUTC1_5/INPC1_5 (io), 40 P2_4/OUTC1_4/INPC1_4 (io), 41 P2_3/OUTC1_3/INPC1_3 (io), 42 P2_2/OUTC1_2/INPC1_2 (io), 43 P2_1/OUTC1_1/INPC1_1/SCLMM (io), 44 P2_0/OUTC1_0/INPC1_0/SDAMM (io), 45 P1_7/~{INT}5/INPC1_7/IDU (io), 46 P1_6/~{INT}4/IDW (io), 47 P1_5/~{INT}3/~{ADTRG}/IDV (io), 48 P0_3/AN0_3 (io), 49 P0_2/AN0_2 (io), 50 P0_1/AN0_1 (io), 51 P0_0/AN0_0 (io), 52 P10_7/~{KI}3/AN_7 (io), 53 P10_6/~{KI}2/AN_6 (io), 54 P10_5/~{KI}1/AN_5 (io), 55 P10_4/~{KI}0/AN_4 (io), 56 P10_3/AN_3 (io), 57 P10_2/AN_2 (io), 58 P10_1/AN_1 (io), 60 P10_0/AN_0 (io), 61 VREF (in), 63 P9_3/AN2_4 (io), 64 P9_2/TB2IN (io)
part B pins: 8 VSS (power), 10 VCC (power), 59 AVSS (power), 62 AVCC (power)

## M30281FCHP
designator U?
Flash Memory M16C/Tiny Series, 28 Group MCU, 128K + 4K ROM, 12K RAM, 64-pin QFP; Published: 28-Aug-2009; DatasheetVersion: Rev.2.00, Jan-2007; PackageVersion: Sep-2005; PackageReference: PLQP0064KB-A; Publisher: Altium Limited; PackageDescription: 64-Pin Plastic Low Profile QFP, 10 x 10 x 1.4 mm Body, 0.5 mm Pitch; Code_JEITA: P-LQFP64-10x10-0.50; Code_IPC: SQFP50P1200X1200-64; ComponentLink1Description: Manufacturer Link; ComponentLink1URL: http://sg.renesas.com/fmwk.jsp?cnt=m16c_family_landing.jsp&fp=/products/mpumcu/m16c_family/; ComponentLink2Description: Datasheet; ComponentLink2URL: http://documentation.renesas.com/eng/products/mpumcu/rej09b0047_16c28hm.pdf; ComponentLink3Description: Packaging Specification; ComponentLink3URL: http://sg.renesas.com/media/products/common_info/package/pdf/ic/code/plqp0064kb_a.pdf
footprint PLQP0064KB-A_N (Shrink QFP, 64-Leads, Body 10x10mm, Pitch 0.5mm, IPC Medium Density)
footprint PLQP0064KB-A_L (Shrink QFP, 64-Leads, Body 10x10mm, Pitch 0.5mm, IPC High Density)
footprint PLQP0064KB-A_M (Shrink QFP, 64-Leads, Body 10x10mm, Pitch 0.5mm, IPC Low Density)
part A pins: 1 P9_1/TB1IN (io), 2 P9_0/TB0IN (io), 3 CNVSS (in), 4 P8_7/XCIN (io), 5 P8_6/XCOUT (io), 6 ~{RESET} (in), 11 P8_5/~{NMI}/~{SD} (io), 12 P8_4/~{INT}2/ZP (io), 13 P8_3/~{INT}1 (io), 14 P8_2/~{INT}0 (io), 15 P8_1/TA4IN/~{U} (io), 16 P8_0/TA4OUT/U (io), 17 P7_7/TA3IN (io), 18 P7_6/TA3OUT (io), 19 P7_5/TA2IN/~{W} (io), 20 P7_4/TA2OUT/W (io), 21 P7_3/~{CTS}2/~{RTS}2/TA1IN/~{V}/TXD1 (io), 22 P7_2/CLK2/TA1OUT/V/RxD1 (io), 23 P7_1/RxD2/SCL2/TA0IN/CLK1 (io), 24 P7_0/TxD2/TA0OUT/SDA2/~{CTS}1/~{RTS}1/~{CTS}0/CLKS1 (io), 25 P6_7/TxD1 (io), 26 P6_6/RxD1 (io), 27 P6_5/CLK1 (io), 28 P6_4/~{CTS}1/~{RTS}1/~{CTS}0/CLKS1 (io), 29 P3_3 (io), 30 P3_2/SOUT3 (io), 31 P3_1/SIN3 (io), 32 P3_0/CLK3 (io), 33 P6_3/TxD0 (io), 34 P6_2/RxD0 (io), 35 P6_1/CLK0 (io), 36 P6_0/~{CTS}0/~{RTS}0 (io), 37 P2_7/OUTC1_7/INPC1_7 (io), 38 P2_6/OUTC1_6/INPC1_6 (io), 39 P2_5/OUTC1_5/INPC1_5 (io), 40 P2_4/OUTC1_4/INPC1_4 (io), 41 P2_3/OUTC1_3/INPC1_3 (io), 42 P2_2/OUTC1_2/INPC1_2 (io), 43 P2_1/OUTC1_1/INPC1_1/SCLMM (io), 44 P2_0/OUTC1_0/INPC1_0/SDAMM (io), 45 P1_7/~{INT}5/INPC1_7/IDU (io), 46 P1_6/~{INT}4/IDW (io), 47 P1_5/~{INT}3/~{ADTRG}/IDV (io), 48 P0_3/AN0_3 (io), 49 P0_2/AN0_2 (io), 50 P0_1/AN0_1 (io), 51 P0_0/AN0_0 (io), 52 P10_7/~{KI}3/AN_7 (io), 53 P10_6/~{KI}2/AN_6 (io), 54 P10_5/~{KI}1/AN_5 (io), 55 P10_4/~{KI}0/AN_4 (io), 56 P10_3/AN_3 (io), 57 P10_2/AN_2 (io), 58 P10_1/AN_1 (io), 60 P10_0/AN_0 (io), 61 VREF (in), 63 P9_3/AN2_4 (io), 64 P9_2/TB2IN (io)
part B pins: 8 VSS (power), 10 VCC (power), 59 AVSS (power), 62 AVCC (power)